# EAGLE library part 5VLX220TFF1738 (library xilinx_spartan3_virtex4_and_5)
Xilinx FPGA
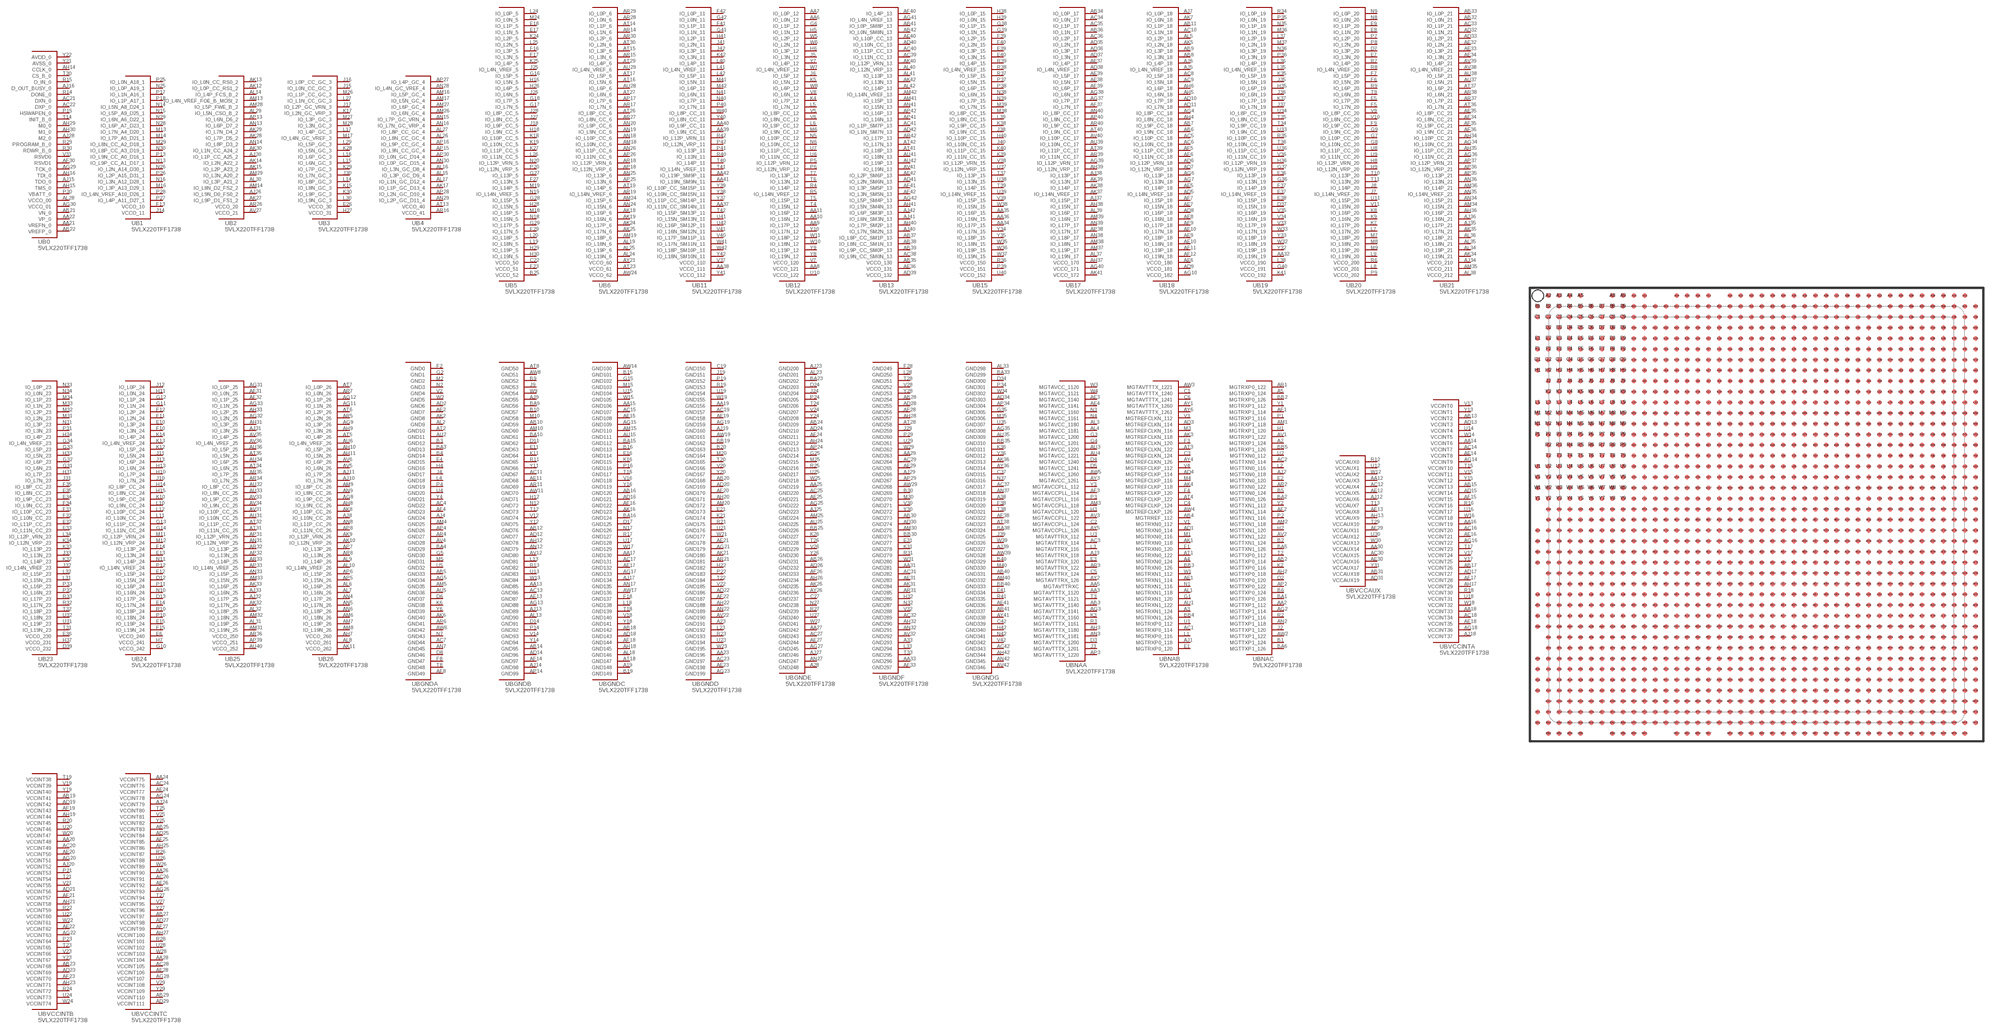
[diagram p109: symbol with the pads of FF1738; footprint FF1738]

Designator prefix U; gates B0=5VLX220TFF1738_0 B1=5VLX220TFF1738_1 B2=5VLX220TFF1738_2 B3=5VLX220TFF1738_3 B4=5VLX220TFF1738_4 B5=5VLX220TFF1738_5 B6=5VLX220TFF1738_6 B11=5VLX220TFF1738_11 B12=5VLX220TFF1738_12 B13=5VLX220TFF1738_13 B15=5VLX220TFF1738_15 B17=5VLX220TFF1738_17 B18=5VLX220TFF1738_18 B19=5VLX220TFF1738_19 B20=5VLX220TFF1738_20 B21=5VLX220TFF1738_21 B23=5VLX220TFF1738_23 B24=5VLX220TFF1738_24 B25=5VLX220TFF1738_25 B26=5VLX220TFF1738_26 BGNDA=5VLX220TFF1738_GNDA BGNDB=5VLX220TFF1738_GNDB BGNDC=5VLX220TFF1738_GNDC BGNDD=5VLX220TFF1738_GNDD BGNDE=5VLX220TFF1738_GNDE BGNDF=5VLX220TFF1738_GNDF BGNDG=5VLX220TFF1738_GNDG BNAA=5VLX220TFF1738_NAA BNAB=5VLX220TFF1738_NAB BNAC=5VLX220TFF1738_NAC BVCCAUX=5VLX220TFF1738_VCCAUX BVCCINTA=5VLX220TFF1738_VCCINTA BVCCINTB=5VLX220TFF1738_VCCINTB BVCCINTC=5VLX220TFF1738_VCCINTC

## 5VLX220TFF1738  [FF1738]
A2  BNAC:MGTRXP1_124
A3  BNAB:MGTRXN1_124
A4  BNAB:MGTRXN0_124
A5  BNAC:MGTRXP0_124
A19  BGNDC:GND148  pas
A23  BGNDD:GND191  pas
A28  BGNDE:GND248  pas
A33  BGNDF:GND293  pas
A38  BGNDG:GND319  pas
AA2  BNAC:MGTTXP1_112
AA3  BNAA:MGTAVTTTX_1120
AA5  BNAA:MGTAVTTRXC
AA6  B12:IO_L0N_12
AA7  B12:IO_L0P_12
AA8  B12:VCCO_121  pas
AA9  B12:IO_L17P_12
AA10  B12:IO_L16N_12
AA11  B12:IO_L16P_12
AA12  BVCCAUX:VCCAUX3  pas
AA13  BGNDB:GND85  pas
AA14  BVCCINTA:VCCINT6  pas
AA15  BGNDC:GND106  pas
AA16  BVCCINTA:VCCINT19  pas
AA17  BGNDC:GND130  pas
AA18  BVCCINTA:VCCINT33  pas
AA19  BGNDD:GND156  pas
AA20  BVCCINTB:VCCINT48  pas
AA21  B0:VREFN_0
AA22  B0:VP_0
AA23  BGNDD:GND196  pas
AA24  BVCCINTC:VCCINT75  pas
AA25  BGNDE:GND219  pas
AA26  BVCCINTC:VCCINT90  pas
AA27  BGNDE:GND242  pas
AA28  BVCCINTC:VCCINT104  pas
AA29  BGNDF:GND263  pas
AA30  BVCCAUX:VCCAUX14  pas
AA31  BGNDF:GND281  pas
AA32  B19:IO_L19N_19
AA33  BGNDF:GND296  pas
AA34  B15:IO_L17P_15
AA35  B15:IO_L16P_15
AA36  B15:IO_L16N_15
AA37  B11:IO_L11N_CC_SM14N_11
AA38  B11:VCCO_111  pas
AA39  B11:IO_L9N_CC_11
AA40  B11:IO_L9P_CC_11
AA41  B11:IO_L19N_SM9N_11
AA42  B11:IO_L19P_SM9P_11
AB2  BNAC:MGTTXP0_114
AB3  BNAA:MGTAVTTTX_1140
AB4  BNAB:MGTRREF_112
AB5  BGNDA:GND33  pas
AB6  B18:IO_L9N_CC_18
AB7  B18:IO_L9P_CC_18
AB8  B18:IO_L3N_18
AB9  B18:IO_L3P_18
AB10  BGNDB:GND59  pas
AB11  B18:IO_L1P_18
AB12  BGNDB:GND76  pas
AB13  BVCCINTA:VCCINT2  pas
AB14  BGNDB:GND95  pas
AB15  BVCCINTA:VCCINT13  pas
AB16  BGNDC:GND120  pas
AB17  BVCCINTA:VCCINT26  pas
AB18  BGNDC:GND142  pas
AB19  BVCCINTB:VCCINT41  pas
AB20  BGNDD:GND168  pas
AB21  B0:VN_0
AB22  B0:VREFP_0
AB23  BVCCINTB:VCCINT68  pas
AB24  BGNDE:GND209  pas
AB25  BVCCINTC:VCCINT83  pas
AB26  BGNDE:GND231  pas
AB27  BVCCINTC:VCCINT97  pas
AB28  BGNDF:GND254  pas
AB29  BVCCINTC:VCCINT110  pas
AB30  BGNDF:GND273  pas
AB31  BVCCAUX:VCCAUX18  pas
AB32  B21:IO_L0N_21
AB33  B21:IO_L0P_21
AB34  B17:IO_L0P_17
AB35  B13:VCCO_130  pas
AB36  B17:IO_L1N_17
AB37  B13:IO_L8P_CC_SM1P_13
AB38  B13:IO_L8N_CC_SM1N_13
AB39  B13:IO_L9P_CC_SM0P_13
AB40  BGNDG:GND331  pas
AB41  B13:IO_L0P_SM8P_13
AB42  B13:IO_L0N_SM8N_13
AC1  BNAB:MGTRXP0_114
AC2  BNAC:MGTTXN0_114
AC3  BNAA:MGTAVTTRX_114
AC4  BGNDA:GND22  pas
AC5  B18:IO_L10P_CC_18
AC6  B18:IO_L10N_CC_18
AC7  BGNDA:GND44  pas
AC8  B18:IO_L5P_18
AC9  B18:IO_L5N_18
AC10  B18:IO_L1N_18
AC11  BGNDB:GND67  pas
AC12  BVCCAUX:VCCAUX4  pas
AC13  BGNDB:GND86  pas
AC14  BVCCINTA:VCCINT7  pas
AC15  BGNDC:GND107  pas
AC16  BVCCINTA:VCCINT20  pas
AC17  BGNDC:GND131  pas
AC18  BVCCINTA:VCCINT34  pas
AC19  BGNDD:GND157  pas
AC20  BVCCINTB:VCCINT49  pas
AC21  B0:DXN_0
AC22  B0:DXP_0
AC23  BGNDD:GND197  pas
AC24  BVCCINTC:VCCINT76  pas
AC25  BGNDE:GND220  pas
AC26  BVCCINTC:VCCINT91  pas
AC27  BGNDE:GND243  pas
AC28  BVCCINTC:VCCINT105  pas
AC29  BGNDF:GND264  pas
AC30  BVCCAUX:VCCAUX15  pas
AC31  BGNDF:GND282  pas
AC32  BGNDF:GND289  pas
AC33  B21:IO_L1P_21
AC34  B17:IO_L0N_17
AC35  B17:IO_L1P_17
AC36  B17:IO_L2P_17
AC37  BGNDG:GND317  pas
AC38  B13:IO_L9N_CC_SM0N_13
AC39  B13:IO_L11N_CC_13
AC40  B13:IO_L11P_CC_13
AC41  B13:IO_L1P_SM7P_13
AC42  BGNDG:GND343  pas
AD1  BNAB:MGTRXN0_114
AD2  BGNDA:GND6  pas
AD3  BNAB:MGTREFCLKN_114
AD4  BNAB:MGTREFCLKP_114
AD5  B18:IO_L14N_VREF_18
AD6  B18:IO_L12P_VRN_18
AD7  B18:IO_L12N_VRP_18
AD8  B18:IO_L16P_18
AD9  B18:VCCO_181  pas
AD10  B18:IO_L7P_18
AD11  B18:IO_L7N_18
AD12  BGNDB:GND77  pas
AD13  BVCCINTA:VCCINT3  pas
AD14  BGNDB:GND96  pas
AD15  BVCCINTA:VCCINT14  pas
AD16  BGNDC:GND121  pas
AD17  BVCCINTA:VCCINT27  pas
AD18  BGNDC:GND143  pas
AD19  BVCCINTB:VCCINT42  pas
AD20  BGNDD:GND169  pas
AD21  BVCCINTB:VCCINT56  pas
AD22  BGNDD:GND186  pas
AD23  BVCCINTB:VCCINT69  pas
AD24  BGNDE:GND210  pas
AD25  BVCCINTC:VCCINT84  pas
AD26  BGNDE:GND232  pas
AD27  BVCCINTC:VCCINT98  pas
AD28  BGNDF:GND255  pas
AD29  BVCCINTC:VCCINT111  pas
AD30  BGNDF:GND274  pas
AD31  BVCCAUX:VCCAUX19  pas
AD32  B21:IO_L1N_21
AD33  B21:IO_L2P_21
AD34  BGNDG:GND303  pas
AD35  B17:IO_L2N_17
AD36  B17:IO_L3P_17
AD37  B17:IO_L3N_17
AD38  B17:IO_L4N_VREF_17
AD39  B13:VCCO_132  pas
AD40  B13:IO_L10N_CC_13
AD41  B13:IO_L2N_SM6N_13
AD42  B13:IO_L1N_SM7N_13
AE1  BNAB:MGTRXN1_114
AE2  BGNDA:GND7  pas
AE3  BNAA:MGTAVCC_1140
AE4  BNAA:MGTAVCC_1141
AE5  B18:IO_L14P_18
AE6  B18:VCCO_180  pas
AE7  B18:IO_L15N_18
AE8  B18:IO_L16N_18
AE9  B18:IO_L18P_18
AE10  B18:IO_L18N_18
AE11  BGNDB:GND68  pas
AE12  BVCCAUX:VCCAUX5  pas
AE13  BGNDB:GND87  pas
AE14  BVCCINTA:VCCINT8  pas
AE15  BGNDC:GND108  pas
AE16  BVCCINTA:VCCINT21  pas
AE17  BGNDC:GND132  pas
AE18  BVCCINTA:VCCINT35  pas
AE19  BGNDD:GND158  pas
AE20  BVCCINTB:VCCINT50  pas
AE21  BGNDD:GND178  pas
AE22  BVCCINTB:VCCINT62  pas
AE23  BGNDD:GND198  pas
AE24  BVCCINTC:VCCINT77  pas
AE25  BGNDE:GND221  pas
AE26  BVCCINTC:VCCINT92  pas
AE27  BGNDE:GND244  pas
AE28  BVCCINTC:VCCINT106  pas
AE29  BGNDF:GND265  pas
AE30  BVCCAUX:VCCAUX16  pas
AE31  BGNDF:GND283  pas
AE32  B21:IO_L2N_21
AE33  B21:IO_L3P_21
AE34  B21:IO_L3N_21
AE35  B21:IO_L8P_CC_21
AE36  B13:VCCO_131  pas
AE37  B17:IO_L4P_17
AE38  B17:IO_L5N_17
AE39  B17:IO_L5P_17
AE40  B13:IO_L10P_CC_13
AE41  BGNDG:GND336  pas
AE42  B13:IO_L2P_SM6P_13
AF1  BNAC:MGTRXP1_114
AF2  BNAC:MGTTXN1_114
AF3  BNAA:MGTAVCCPLL_114
AF4  BGNDA:GND23  pas
AF5  B18:IO_L11P_CC_18
AF6  B18:IO_L11N_CC_18
AF7  B18:IO_L15P_18
AF8  BGNDA:GND49  pas
AF9  B18:IO_L17P_18
AF10  B18:IO_L17N_18
AF11  B18:IO_L19P_18
AF12  B18:IO_L19N_18
AF13  BVCCAUX:VCCAUX8  pas
AF14  BGNDB:GND97  pas
AF15  BVCCINTA:VCCINT15  pas
AF16  BGNDC:GND122  pas
AF17  BVCCINTA:VCCINT28  pas
AF18  BGNDC:GND144  pas
AF19  BVCCINTB:VCCINT43  pas
AF20  BGNDD:GND170  pas
AF21  BVCCINTB:VCCINT57  pas
AF22  BGNDD:GND187  pas
AF23  BVCCINTB:VCCINT70  pas
AF24  BGNDE:GND211  pas
AF25  BVCCINTC:VCCINT85  pas
AF26  BGNDE:GND233  pas
AF27  BVCCINTC:VCCINT99  pas
AF28  BGNDF:GND256  pas
AF29  BVCCAUX:VCCAUX11  pas
AF30  B0:RSVD1
AF31  B25:IO_L0N_25
AF32  B25:IO_L1P_25
AF33  BGNDF:GND297  pas
AF34  B21:IO_L8N_CC_21
AF35  B21:IO_L9P_CC_21
AF36  B21:IO_L9N_CC_21
AF37  B17:IO_L7N_17
AF38  BGNDG:GND322  pas
AF39  B17:IO_L6P_17
AF40  B13:IO_L4P_13
AF41  B13:IO_L3P_SM5P_13
AF42  B13:IO_L3N_SM5N_13
AG2  BNAC:MGTTXP1_114
AG3  BNAA:MGTAVTTTX_1141
AG4  B18:IO_L8P_CC_18
AG5  BGNDA:GND34  pas
AG6  B18:IO_L13P_18
AG7  B18:IO_L13N_18
AG8  B26:IO_L9P_CC_26
AG9  B26:IO_L3P_26
AG10  B18:VCCO_182  pas
AG11  B26:IO_L1N_26
AG12  B26:IO_L1P_26
AG13  BGNDB:GND88  pas
AG14  BVCCINTA:VCCINT9  pas
AG15  BGNDC:GND109  pas
AG16  BVCCINTA:VCCINT22  pas
AG17  BGNDC:GND133  pas
AG18  BVCCINTA:VCCINT36  pas
AG19  BGNDD:GND159  pas
AG20  BVCCINTB:VCCINT51  pas
AG21  BGNDD:GND179  pas
AG22  BVCCINTB:VCCINT63  pas
AG23  BGNDD:GND199  pas
AG24  BVCCINTC:VCCINT78  pas
AG25  BGNDE:GND222  pas
AG26  BVCCINTC:VCCINT93  pas
AG27  BGNDE:GND245  pas
AG28  BVCCINTC:VCCINT107  pas
AG29  B0:TCK_0
AG30  B0:VCCO_01  pas
AG31  B25:IO_L0P_25
AG32  B25:IO_L2N_25
AG33  B25:IO_L1N_25
AG34  B21:IO_L10N_CC_21
AG35  BGNDG:GND308  pas
AG36  B21:IO_L11N_CC_21
AG37  B17:IO_L7P_17
AG38  B17:IO_L6N_17
AG39  B17:IO_L12P_VRN_17
AG40  B17:VCCO_171  pas
AG41  B13:IO_L4N_VREF_13
AG42  B13:IO_L5P_SM4P_13
AH2  BNAC:MGTTXP0_118
AH3  BNAA:MGTAVTTTX_1180
AH4  B18:IO_L8N_CC_18
AH5  B18:IO_L6N_18
AH6  B18:IO_L6P_18
AH7  B26:VCCO_260  pas
AH8  B26:IO_L9N_CC_26
AH9  B26:IO_L3N_26
AH10  B26:IO_L5P_26
AH11  B26:IO_L5N_26
AH12  BGNDB:GND78  pas
AH13  BVCCAUX:VCCAUX9  pas
AH14  B0:CCLK_0
AH15  B0:TMS_0
AH16  B0:TDI_0
AH17  BVCCINTA:VCCINT29  pas
AH18  BGNDC:GND145  pas
AH19  BVCCINTB:VCCINT44  pas
AH20  BGNDD:GND171  pas
AH21  BVCCINTB:VCCINT58  pas
AH22  BGNDD:GND188  pas
AH23  BVCCINTB:VCCINT71  pas
AH24  BGNDE:GND212  pas
AH25  BVCCINTC:VCCINT86  pas
AH26  BGNDE:GND234  pas
AH27  BVCCINTC:VCCINT100  pas
AH28  BGNDF:GND257  pas
AH29  B0:M0_0
AH30  B0:M1_0
AH31  B25:IO_L3P_25
AH32  BGNDF:GND290  pas
AH33  B25:IO_L2P_25
AH34  B21:IO_L10P_CC_21
AH35  B21:IO_L11P_CC_21
AH36  B21:IO_L16P_21
AH37  B17:VCCO_170  pas
AH38  B17:IO_L15N_17
AH39  B17:IO_L12N_VRP_17
AH40  B13:IO_L7P_SM2P_13
AH41  B13:IO_L5N_SM4N_13
AH42  BGNDG:GND344  pas
AJ1  BNAB:MGTRXP0_118
AJ2  BNAC:MGTTXN0_118
AJ3  BNAA:MGTAVTTRX_118
AJ4  BGNDA:GND24  pas
AJ5  B18:IO_L4N_VREF_18
AJ6  B18:IO_L4P_18
AJ7  B18:IO_L0P_18
AJ8  B26:IO_L10N_CC_26
AJ9  BGNDB:GND55  pas
AJ10  B26:IO_L7N_26
AJ11  B26:IO_L7P_26
AJ12  BVCCAUX:VCCAUX6  pas
AJ13  BGNDB:GND89  pas
AJ14  BGNDB:GND98  pas
AJ15  B0:TDO_0
AJ16  B0:D_OUT_BUSY_0
AJ17  BGNDC:GND134  pas
AJ18  BVCCINTA:VCCINT37  pas
AJ19  BGNDD:GND160  pas
AJ20  BVCCINTB:VCCINT52  pas
AJ23  BGNDE:GND200  pas
AJ24  BVCCINTC:VCCINT79  pas
AJ25  BGNDE:GND223  pas
AJ26  B2:IO_L9N_D0_FS0_2
AJ27  BGNDE:GND246  pas
AJ28  B0:M2_0
AJ29  BGNDF:GND266  pas
AJ30  B2:IO_L1P_CC_A25_2
AJ31  B25:IO_L3N_25
AJ32  B25:IO_L17P_25
AJ33  B25:IO_L16N_25
AJ34  B21:VCCO_210  pas
AJ35  B21:IO_L17P_21
AJ36  B21:IO_L16N_21
AJ37  B17:IO_L15P_17
AJ38  B17:IO_L13P_17
AJ39  BGNDG:GND327  pas
AJ40  B13:IO_L7N_SM2N_13
AJ41  B13:IO_L6N_SM3N_13
AJ42  B13:IO_L6P_SM3P_13
AK1  BNAB:MGTRXN0_118
AK2  BGNDA:GND8  pas
AK3  BNAB:MGTREFCLKN_118
AK4  BNAB:MGTREFCLKP_118
AK5  B18:IO_L2N_18
AK6  BGNDA:GND40  pas
AK7  B18:IO_L0N_18
AK8  B26:IO_L10P_CC_26
AK9  B26:IO_L12P_VRN_26
AK10  B26:IO_L12N_VRP_26
AK11  B26:VCCO_262  pas
AK12  B2:IO_L0P_CC_RS1_2
AK13  B2:IO_L0N_CC_RS0_2
AK14  B2:IO_L2N_A22_2
AK15  B2:IO_L2P_A23_2
AK16  BGNDC:GND123  pas
AK17  B4:IO_L1P_GC_D13_4
AK18  B6:IO_L16P_6
AK19  B6:IO_L16N_6
AK21  BGNDD:GND180  pas
AK24  B6:IO_L17P_6
AK25  B6:IO_L17N_6
AK26  BGNDE:GND235  pas
AK27  B2:IO_L9P_D1_FS1_2
AK28  B2:IO_L7P_D5_2
AK29  B2:IO_L7N_D4_2
AK30  B2:IO_L1N_CC_A24_2
AK31  BGNDF:GND284  pas
AK32  B25:IO_L17N_25
AK33  B25:IO_L16P_25
AK34  B21:IO_L19N_21
AK35  B21:IO_L17N_21
AK36  BGNDG:GND313  pas
AK37  B17:IO_L14N_VREF_17
AK38  B17:IO_L14P_17
AK39  B17:IO_L13N_17
AK40  B13:IO_L12P_VRN_13
AK41  B17:VCCO_172  pas
AK42  B13:IO_L13N_13
AL1  BNAB:MGTRXN1_118
AL2  BGNDA:GND9  pas
AL3  BNAA:MGTAVCC_1180
AL4  BNAA:MGTAVCC_1181
AL5  B18:IO_L2P_18
AL6  B26:IO_L16P_26
AL7  B26:IO_L16N_26
AL8  B26:VCCO_261  pas
AL9  B26:IO_L14P_26
AL10  B26:IO_L14N_VREF_26
AL13  BGNDB:GND90  pas
AL14  B2:IO_L4P_FCS_B_2
AL15  B4:IO_L3P_GC_D9_4
AL16  B4:IO_L3N_GC_D8_4
AL17  B4:IO_L1N_GC_D12_4
AL18  BGNDC:GND146  pas
AL19  B6:IO_L18N_6
AL23  BGNDE:GND201  pas
AL24  B6:IO_L19N_6
AL25  B6:IO_L19P_6
AL26  B4:IO_L8N_CC_GC_4
AL27  B4:IO_L8P_CC_GC_4
AL28  B0:VCCO_00  pas
AL29  B2:IO_L5N_CSO_B_2
AL30  B2:IO_L3P_A21_2
AL31  B25:IO_L19P_25
AL32  B25:IO_L18P_25
AL33  BGNDG:GND298  pas
AL34  B21:IO_L19P_21
AL35  B21:IO_L18N_21
AL36  B21:IO_L18P_21
AL37  B17:IO_L19N_17
AL38  B21:VCCO_212  pas
AL39  B17:IO_L16P_17
AL40  B13:IO_L12N_VRP_13
AL41  B13:IO_L13P_13
AL42  B13:IO_L14P_13
AM1  BNAC:MGTRXP1_118
AM2  BNAC:MGTTXN1_118
AM3  BNAA:MGTAVCCPLL_118
AM4  BGNDA:GND25  pas
AM5  BGNDA:GND35  pas
AM6  B26:IO_L18N_26
AM7  B26:IO_L19P_26
AM8  B26:IO_L19N_26
AM9  B26:IO_L8P_CC_26
AM10  BGNDB:GND60  pas
AM13  B2:IO_L4N_VREF_FOE_B_MOSI_2
AM14  B2:IO_L8N_D2_FS2_2
AM15  BGNDC:GND110  pas
AM16  B4:IO_L5P_GC_4
AM17  B4:IO_L5N_GC_4
AM18  B6:IO_L10N_CC_6
AM19  B6:IO_L18P_6
AM20  BGNDD:GND172  pas
AM24  B6:IO_L15P_6
AM25  BGNDE:GND224  pas
AM26  B4:IO_L6N_GC_4
AM27  B4:IO_L6P_GC_4
AM28  B2:IO_L5P_FWE_B_2
AM29  B2:IO_L3N_A20_2
AM30  BGNDF:GND275  pas
AM31  B25:IO_L19N_25
AM32  B25:IO_L18N_25
AM33  B25:IO_L15N_25
AM34  B21:IO_L15N_21
AM35  B21:VCCO_211  pas
AM36  B21:IO_L14P_21
AM37  B17:IO_L19P_17
AM38  B17:IO_L18N_17
AM39  B17:IO_L16N_17
AM40  BGNDG:GND332  pas
AM41  B13:IO_L15P_13
AM42  B13:IO_L14N_VREF_13
AN2  BNAC:MGTTXP1_118
AN3  BNAA:MGTAVTTTX_1181
AN4  B26:IO_L17P_26
AN5  B26:IO_L17N_26
AN6  B26:IO_L18P_26
AN7  BGNDA:GND45  pas
AN8  B26:IO_L11P_CC_26
AN9  B26:IO_L8N_CC_26
AN12  BGNDB:GND79  pas
AN13  B2:IO_L6P_D7_2
AN14  B2:IO_L8P_D3_2
AN15  B4:IO_L7P_GC_VRN_4
AN16  B4:IO_L7N_GC_VRP_4
AN17  BGNDC:GND135  pas
AN18  B6:IO_L10P_CC_6
AN19  B6:IO_L9N_CC_6
AN20  B6:IO_L9P_CC_6
AN22  BGNDD:GND189  pas
AN24  B6:IO_L15N_6
AN25  B6:IO_L13P_6
AN26  B6:IO_L11P_CC_6
AN27  BGNDE:GND247  pas
AN28  B4:IO_L4N_GC_VREF_4
AN29  B4:IO_L2P_GC_D11_4
AN30  B4:IO_L0P_GC_D15_4
AN31  B25:IO_L12N_VRP_25
AN32  BGNDF:GND291  pas
AN33  B25:IO_L15P_25
AN34  B21:IO_L15P_21
AN35  B21:IO_L14N_VREF_21
AN36  B21:IO_L13N_21
AN37  BGNDG:GND318  pas
AN38  B17:IO_L18P_17
AN39  B17:IO_L17P_17
AN40  B17:IO_L8P_CC_17
AN41  B13:IO_L15N_13
AN42  BGNDG:GND345  pas
AP2  BNAC:MGTTXP0_122
AP3  BNAA:MGTAVTTTX_1220
AP4  BGNDA:GND26  pas
AP5  B26:IO_L15N_26
AP6  B26:IO_L15P_26
AP7  B26:IO_L13P_26
AP8  B26:IO_L11N_CC_26
AP13  B2:IO_L6N_D6_2
AP14  BGNDB:GND99  pas
AP15  B4:IO_L9N_CC_GC_4
AP16  B4:IO_L9P_CC_GC_4
AP17  B6:IO_L7P_6
AP18  B6:IO_L12N_VRP_6
AP24  BGNDE:GND213  pas
AP25  B6:IO_L13N_6
AP26  B6:IO_L11N_CC_6
AP27  B4:IO_L4P_GC_4
AP28  B4:IO_L2N_GC_D10_4
AP29  BGNDF:GND267  pas
AP30  B4:IO_L0N_GC_D14_4
AP31  B25:IO_L12P_VRN_25
AP32  B25:IO_L13N_25
AP33  B25:IO_L14N_VREF_25
AP34  BGNDG:GND304  pas
AP35  B21:IO_L13P_21
AP36  B21:IO_L12N_VRP_21
AP37  B21:IO_L12P_VRN_21
AP38  B17:IO_L17N_17
AP39  B25:VCCO_251  pas
AP40  B17:IO_L8N_CC_17
AP41  B13:IO_L16N_13
AP42  B13:IO_L16P_13
AR1  BNAC:MGTRXP0_122
AR2  BNAC:MGTTXN0_122
AR3  BNAA:MGTAVTTRX_122
AR4  BGNDA:GND27  pas
AR5  B26:IO_L2N_26
AR6  BGNDA:GND41  pas
AR7  B26:IO_L0N_26
AR8  B26:IO_L13N_26
AR11  BGNDB:GND69  pas
AR14  B6:IO_L1N_6
AR15  B6:IO_L3N_6
AR16  B4:VCCO_41  pas
AR17  B6:IO_L7N_6
AR18  B6:IO_L12P_VRN_6
AR19  B6:IO_L14N_VREF_6
AR21  BGNDD:GND181  pas
AR26  B2:VCCO_20  pas
AR27  B6:IO_L8N_CC_6
AR28  B6:IO_L0N_6
AR29  B6:IO_L0P_6
AR30  B6:IO_L2P_6
AR31  BGNDF:GND285  pas
AR32  B25:IO_L13P_25
AR33  B25:IO_L14P_25
AR34  B25:IO_L7N_25
AR35  B25:IO_L7P_25
AR36  B25:VCCO_250  pas
AR37  B21:IO_L7P_21
AR38  B21:IO_L6N_21
AR39  B17:IO_L11N_CC_17
AR40  B17:IO_L9P_CC_17
AR41  BGNDG:GND337  pas
AR42  B13:IO_L17P_13
AT1  BNAB:MGTRXN0_122
AT2  BGNDA:GND10  pas
AT3  BNAB:MGTREFCLKN_122
AT4  BNAB:MGTREFCLKP_122
AT5  B26:IO_L4P_26
AT6  B26:IO_L2P_26
AT7  B26:IO_L0P_26
AT8  BGNDB:GND50  pas
AT13  B4:VCCO_40  pas
AT14  B6:IO_L1P_6
AT15  B6:IO_L3P_6
AT16  B6:IO_L5N_6
AT17  B6:IO_L5P_6
AT18  BGNDC:GND147  pas
AT19  B6:IO_L14P_6
AT23  B6:VCCO_61  pas
AT26  B6:IO_L8P_CC_6
AT27  B6:IO_L6N_6
AT28  BGNDF:GND258  pas
AT29  B6:IO_L4P_6
AT30  B6:IO_L2N_6
AT31  B25:IO_L11N_CC_25
AT32  B25:IO_L11P_CC_25
AT34  B25:IO_L6N_25
AT35  B25:IO_L5N_25
AT36  B21:IO_L7N_21
AT37  B21:IO_L6P_21
AT38  BGNDG:GND323  pas
AT39  B17:IO_L11P_CC_17
AT40  B17:IO_L9N_CC_17
AT41  B13:IO_L18P_13
AT42  B13:IO_L17N_13
AU1  BNAB:MGTRXN1_122
AU2  BGNDA:GND11  pas
AU3  BNAA:MGTAVCC_1220
AU4  BNAA:MGTAVCC_1221
AU5  BGNDA:GND36  pas
AU6  B26:IO_L4N_VREF_26
AU15  BGNDC:GND111  pas
AU25  BGNDE:GND225  pas
AU28  B6:IO_L6P_6
AU29  B6:IO_L4N_VREF_6
AU31  B25:IO_L10N_CC_25
AU32  B25:IO_L8P_CC_25
AU33  B25:IO_L8N_CC_25
AU34  B25:IO_L6P_25
AU35  BGNDG:GND309  pas
AU36  B25:IO_L5P_25
AU37  B21:IO_L5N_21
AU38  B21:IO_L5P_21
AU39  B17:IO_L10N_CC_17
AU40  B25:VCCO_252  pas
AU41  B13:IO_L18N_13
AU42  B13:IO_L19P_13
AV1  BNAC:MGTRXP1_122
AV2  BNAC:MGTTXN1_122
AV3  BNAA:MGTAVCCPLL_122
AV4  BGNDA:GND28  pas
AV5  B26:IO_L6N_26
AV6  B26:IO_L6P_26
AV12  BGNDB:GND80  pas
AV22  BGNDD:GND190  pas
AV27  B2:VCCO_21  pas
AV31  B25:IO_L10P_CC_25
AV32  BGNDF:GND292  pas
AV33  B25:IO_L9P_CC_25
AV34  B25:IO_L9N_CC_25
AV35  B25:IO_L4P_25
AV36  B25:IO_L4N_VREF_25
AV38  B21:IO_L4N_VREF_21
AV39  B21:IO_L4P_21
AV40  B17:IO_L10P_CC_17
AV41  B13:IO_L19N_13
AV42  BGNDG:GND346  pas
AW2  BNAC:MGTTXP1_122
AW3  BNAB:MGTAVTTTX_1221
AW4  BNAB:MGTREFCLKP_126
AW5  BNAA:MGTAVCC_1260
AW6  BGNDA:GND42  pas
AW8  BGNDB:GND51  pas
AW11  BGNDB:GND70  pas
AW14  BGNDC:GND100  pas
AW17  BGNDC:GND136  pas
AW19  BGNDD:GND161  pas
AW24  B6:VCCO_62  pas
AW29  BGNDF:GND268  pas
AW39  BGNDG:GND328  pas
AY1  BNAB:MGTAVTTTX_1260
AY2  BNAA:MGTAVTTRX_126
AY3  BNAA:MGTAVCC_1261
AY4  BNAB:MGTREFCLKN_126
AY5  BNAA:MGTAVCCPLL_126
AY6  BNAB:MGTAVTTTX_1261
AY21  B6:VCCO_60  pas
AY26  BGNDE:GND236  pas
AY36  BGNDG:GND314  pas
AY41  BGNDG:GND338  pas
B1  BNAC:MGTTXP1_124
B2  BNAC:MGTTXN1_124
B3  BGNDA:GND12  pas
B4  BGNDA:GND14  pas
B5  BNAC:MGTTXN0_124
B6  BNAC:MGTTXP0_124
B9  BGNDB:GND52  pas
B10  BGNDB:GND57  pas
B15  BGNDC:GND101  pas
B16  BGNDC:GND113  pas
B19  BGNDC:GND149  pas
B20  BGNDD:GND163  pas
B25  B5:VCCO_52  pas
B30  BGNDF:GND269  pas
B40  BGNDG:GND329  pas
BA1  BNAC:MGTTXP0_126
BA2  BNAC:MGTTXN0_126
BA3  BGNDA:GND13  pas
BA4  BGNDA:GND29  pas
BA5  BNAC:MGTTXN1_126
BA6  BNAC:MGTTXP1_126
BA9  BGNDB:GND56  pas
BA10  BGNDB:GND61  pas
BA15  BGNDC:GND112  pas
BA16  BGNDC:GND124  pas
BA23  BGNDE:GND202  pas
BA33  BGNDG:GND299  pas
BA38  BGNDG:GND324  pas
BB2  BNAC:MGTRXP0_126
BB3  BNAB:MGTRXN0_126
BB4  BNAB:MGTRXN1_126
BB5  BNAC:MGTRXP1_126
BB19  BGNDD:GND162  pas
BB25  BGNDE:GND226  pas
BB30  BGNDF:GND276  pas
BB35  BGNDG:GND310  pas
BB40  BGNDG:GND333  pas
C1  BNAB:MGTAVTTTX_1240
C2  BNAA:MGTAVCCPLL_124
C3  BNAB:MGTREFCLKN_124
C4  BNAB:MGTREFCLKP_124
C5  BNAA:MGTAVTTRX_124
C6  BNAB:MGTAVTTTX_1241
C19  BGNDD:GND150  pas
C22  B5:VCCO_50  pas
C27  BGNDE:GND237  pas
C37  BGNDG:GND315  pas
C42  BGNDG:GND339  pas
D2  BNAC:MGTTXP0_120
D3  BNAA:MGTAVTTTX_1200
D4  BNAA:MGTAVCC_1240
D5  BNAA:MGTAVCC_1241
D6  BGNDA:GND37  pas
D7  B20:IO_L3P_20
D8  BGNDA:GND46  pas
D11  BGNDB:GND62  pas
D12  B24:IO_L15N_24
D13  B24:IO_L17P_24
D14  BGNDB:GND91  pas
D17  BGNDC:GND125  pas
D24  BGNDE:GND203  pas
D34  BGNDG:GND300  pas
D37  B19:IO_L15N_19
D39  B23:VCCO_232  pas
E1  BNAB:MGTRXP0_120
E2  BNAC:MGTTXN0_120
E3  BNAA:MGTAVTTRX_120
E4  BGNDA:GND15  pas
E5  B20:IO_L7P_20
E6  B24:VCCO_240  pas
E7  B20:IO_L3N_20
E8  B20:IO_L1N_20
E9  B20:IO_L1P_20
E10  B24:IO_L3P_24
E11  BGNDB:GND63  pas
E12  B24:IO_L15P_24
E13  B24:IO_L13N_24
E14  B24:IO_L17N_24
E15  B24:IO_L19P_24
E16  BGNDC:GND114  pas
E17  B5:IO_L1N_5
E18  B5:IO_L1P_5
E21  BGNDD:GND173  pas
E26  B3:VCCO_30  pas
E31  BGNDF:GND277  pas
E32  B23:IO_L11P_CC_23
E33  B23:IO_L11N_CC_23
E34  B23:IO_L9P_CC_23
E35  B23:IO_L8N_CC_23
E36  B23:VCCO_230  pas
E37  B19:IO_L14N_VREF_19
E38  B19:IO_L15P_19
E39  B15:IO_L3P_15
E40  B15:IO_L3N_15
E41  BGNDG:GND334  pas
F1  BNAB:MGTRXN0_120
F2  BGNDA:GND0  pas
F3  BNAB:MGTREFCLKN_120
F4  BNAB:MGTREFCLKP_120
F5  B20:IO_L7N_20
F6  B20:IO_L5N_20
F7  B20:IO_L5P_20
F8  BGNDA:GND47  pas
F9  B20:IO_L9P_CC_20
F10  B24:IO_L3N_24
F11  B24:IO_L2N_24
F12  B24:IO_L2P_24
F13  B1:VCCO_10  pas
F14  B24:IO_L13P_24
F15  B24:IO_L19N_24
F16  B5:IO_L3P_5
F17  B5:IO_L3N_5
F18  BGNDC:GND137  pas
F23  B5:VCCO_51  pas
F27  B5:IO_L13N_5
F28  BGNDF:GND249  pas
F29  B5:IO_L17N_5
F31  B23:IO_L10P_CC_23
F32  B23:IO_L10N_CC_23
F34  B23:IO_L9N_CC_23
F35  B23:IO_L8P_CC_23
F36  B19:IO_L13P_19
F37  B19:IO_L14P_19
F38  BGNDG:GND320  pas
F39  B15:IO_L2P_15
F40  B15:IO_L2N_15
F41  B11:IO_L1P_11
F42  B11:IO_L0P_11
G1  BNAB:MGTRXN1_120
G2  BGNDA:GND1  pas
G3  BNAA:MGTAVCC_1200
G4  BNAA:MGTAVCC_1201
G5  BGNDA:GND30  pas
G6  B12:IO_L1P_12
G7  B20:IO_L10P_CC_20
G8  B20:IO_L10N_CC_20
G9  B20:IO_L9N_CC_20
G10  B24:VCCO_242  pas
G11  B24:IO_L1N_24
G12  B24:IO_L1P_24
G13  B24:IO_L11P_CC_24
G14  B24:IO_L11N_CC_24
G15  BGNDC:GND102  pas
G16  B5:IO_L5P_5
G17  B5:IO_L7N_5
G18  B5:IO_L7P_5
G25  BGNDE:GND214  pas
G27  B5:IO_L13P_5
G28  B5:IO_L15P_5
G29  B5:IO_L17P_5
G31  B23:IO_L6N_23
G32  B23:IO_L6P_23
G33  B23:IO_L5P_23
G34  B23:IO_L4N_VREF_23
G35  BGNDG:GND305  pas
G36  B19:IO_L13N_19
G37  B19:IO_L12N_VRP_19
G38  B15:IO_L1P_15
G39  B15:IO_L1N_15
G40  B19:VCCO_191  pas
G41  B11:IO_L1N_11
G42  B11:IO_L0N_11
H1  BNAC:MGTRXP1_120
H2  BNAC:MGTTXN1_120
H3  BNAA:MGTAVCCPLL_120
H4  BGNDA:GND16  pas
H5  B12:IO_L1N_12
H6  B12:IO_L3P_12
H7  B24:VCCO_241  pas
H8  B20:IO_L12P_VRN_20
H9  B20:IO_L12N_VRP_20
H10  B24:IO_L7P_24
H11  B24:IO_L0N_24
H12  BGNDB:GND71  pas
H13  B24:IO_L6N_24
H14  B24:IO_L8P_CC_24
H15  B24:IO_L8N_CC_24
H16  B5:IO_L5N_5
H18  B5:IO_L9N_CC_5
H22  BGNDD:GND182  pas
H26  B5:IO_L6P_5
H27  B3:VCCO_31  pas
H28  B5:IO_L15N_5
H29  B5:IO_L19P_5
H30  B5:IO_L19N_5
H31  B23:IO_L7P_23
H32  BGNDF:GND286  pas
H33  B23:IO_L5N_23
H34  B23:IO_L4P_23
H35  B19:IO_L6P_19
H36  B19:IO_L12P_VRN_19
H37  B23:VCCO_231  pas
H38  B15:IO_L0P_15
H39  B15:IO_L0N_15
H40  B15:IO_L10P_CC_15
H41  B11:IO_L2P_11
H42  BGNDG:GND340  pas
J2  BNAC:MGTTXP1_120
J3  BNAA:MGTAVTTTX_1201
J4  BGNDA:GND17  pas
J5  B12:IO_L3N_12
J6  B12:IO_L5P_12
J7  B20:IO_L14N_VREF_20
J8  B20:IO_L14P_20
J9  BGNDB:GND53  pas
J10  B24:IO_L7N_24
J11  B24:IO_L5N_24
J12  B24:IO_L0P_24
J13  B24:IO_L6P_24
J14  B1:VCCO_11  pas
J15  B3:IO_L0N_CC_GC_3
J16  B3:IO_L0P_CC_GC_3
J17  B3:IO_L2P_GC_VRN_3
J18  B5:IO_L9P_CC_5
J19  BGNDD:GND151  pas
J24  BGNDE:GND204  pas
J25  B5:IO_L4N_VREF_5
J26  B5:IO_L6N_5
J27  B5:IO_L8N_CC_5
J28  B5:IO_L8P_CC_5
J29  BGNDF:GND259  pas
J30  B3:IO_L7N_GC_3
J31  B23:IO_L7N_23
J32  B23:IO_L14N_VREF_23
J33  B23:IO_L13N_23
J35  B19:IO_L5N_19
J36  B19:IO_L6N_19
J37  B19:IO_L7N_19
J38  B15:IO_L9N_CC_15
J39  BGNDG:GND325  pas
J40  B15:IO_L10N_CC_15
J41  B11:IO_L2N_11
J42  B11:IO_L3P_11
K2  BNAC:MGTTXP0_116
K3  BNAA:MGTAVTTTX_1160
K4  B12:IO_L7P_12
K5  B12:IO_L5N_12
K6  BGNDA:GND38  pas
K7  B20:IO_L17P_20
K8  B20:IO_L16P_20
K9  B20:IO_L16N_20
K10  B24:IO_L9P_CC_24
K11  BGNDB:GND64  pas
K12  B24:IO_L5P_24
K13  B24:IO_L4N_VREF_24
K14  B24:IO_L4P_24
K15  B3:IO_L8N_GC_3
K16  BGNDC:GND115  pas
K17  B3:IO_L2N_GC_VRP_3
K18  B5:IO_L10P_CC_5
K19  B5:IO_L10N_CC_5
K21  BGNDD:GND174  pas
K24  B5:IO_L2P_5
K25  B5:IO_L4P_5
K26  BGNDE:GND227  pas
K27  B5:IO_L11P_CC_5
K28  B3:IO_L5N_GC_3
K29  B3:IO_L7P_GC_3
K30  B3:IO_L9P_GC_3
K31  BGNDF:GND278  pas
K32  B23:IO_L14P_23
K33  B23:IO_L13P_23
K34  B23:IO_L12N_VRP_23
K35  B19:IO_L5P_19
K36  BGNDG:GND311  pas
K37  B19:IO_L7P_19
K38  B15:IO_L9P_CC_15
K39  B15:IO_L11N_CC_15
K40  B15:IO_L11P_CC_15
K41  B19:VCCO_192  pas
K42  B11:IO_L3N_11
L1  BNAB:MGTRXP0_116
L2  BNAC:MGTTXN0_116
L3  BNAA:MGTAVTTRX_116
L4  BGNDA:GND18  pas
L5  B12:IO_L7N_12
L6  B12:IO_L9P_CC_12
L7  B20:IO_L17N_20
L8  B20:VCCO_201  pas
L9  B20:IO_L19N_20
L10  B24:IO_L9N_CC_24
L11  B24:IO_L10N_CC_24
L12  B24:IO_L10P_CC_24
L13  BGNDB:GND81  pas
L14  B3:IO_L8P_GC_3
L15  B3:IO_L6N_GC_3
L16  B3:IO_L6P_GC_3
L17  B3:IO_L4P_GC_3
L18  BGNDC:GND138  pas
L19  B5:IO_L18N_5
L20  B5:IO_L18P_5
L23  BGNDD:GND192  pas
L24  B5:IO_L0P_5
L25  B5:IO_L2N_5
L26  B5:IO_L11N_CC_5
L27  B3:IO_L1N_CC_GC_3
L28  BGNDF:GND250  pas
L29  B3:IO_L5P_GC_3
L30  B3:IO_L9N_GC_3
L31  B23:IO_L15N_23
L32  B23:IO_L15P_23
L33  BGNDF:GND294  pas
L34  B23:IO_L12P_VRN_23
L35  B19:IO_L4N_VREF_19
L36  B19:IO_L4P_19
L37  B19:IO_L2P_19
L38  B19:VCCO_190  pas
L39  B15:IO_L8N_CC_15
L40  B11:IO_L4P_11
L41  B11:IO_L4N_VREF_11
L42  B11:IO_L5P_11
M1  BNAB:MGTRXN0_116
M2  BGNDA:GND2  pas
M3  BNAB:MGTREFCLKN_116
M4  BNAB:MGTREFCLKP_116
M5  BGNDA:GND31  pas
M6  B12:IO_L9N_CC_12
M7  B20:IO_L18P_20
M8  B20:IO_L18N_20
M9  B20:IO_L19P_20
M10  BGNDB:GND58  pas
M11  B24:IO_L12P_VRN_24
M12  B24:IO_L12N_VRP_24
M13  B1:IO_L7N_A4_D20_1
M14  B1:IO_L7P_A5_D21_1
M15  BGNDC:GND103  pas
M16  B1:IO_L3P_A13_D29_1
M17  B3:IO_L4N_GC_VREF_3
M18  B5:IO_L16P_5
M19  B5:IO_L14P_5
M20  BGNDD:GND164  pas
M24  B5:IO_L0N_5
M25  BGNDE:GND215  pas
M26  B3:IO_L1P_CC_GC_3
M27  B3:IO_L3P_GC_3
M28  B3:IO_L3N_GC_3
M29  B1:IO_L8N_CC_A2_D18_1
M30  BGNDF:GND270  pas
M31  B23:IO_L2N_23
M32  B23:IO_L2P_23
M33  B23:IO_L1N_23
M34  B23:IO_L1P_23
M35  BGNDG:GND306  pas
M36  B19:IO_L1N_19
M37  B19:IO_L2N_19
M38  B15:IO_L8P_CC_15
M39  B15:IO_L7N_15
M40  BGNDG:GND330  pas
M41  B11:IO_L5N_11
M42  B11:IO_L6P_11
N1  BNAB:MGTRXN1_116
N2  BGNDA:GND3  pas
N3  BNAA:MGTAVCC_1160
N4  BNAA:MGTAVCC_1161
N5  B12:IO_L10P_CC_12
N6  B12:IO_L10N_CC_12
N7  BGNDA:GND43  pas
N8  B20:IO_L0N_20
N9  B20:IO_L0P_20
N10  B24:IO_L16N_24
N11  B24:IO_L14P_24
N12  BGNDB:GND72  pas
N13  B1:IO_L9P_CC_A1_D17_1
N14  B1:IO_L5N_A8_D24_1
N15  B1:IO_L5P_A9_D25_1
N16  B1:IO_L3N_A12_D28_1
N17  BGNDC:GND126  pas
N18  B5:IO_L16N_5
N19  B5:IO_L14N_VREF_5
N20  B5:IO_L12P_VRN_5
N25  B1:IO_L0P_A19_1
N26  B1:IO_L2N_A14_D30_1
N27  BGNDE:GND238  pas
N28  B1:IO_L6P_A7_D23_1
N29  B1:IO_L6N_A6_D22_1
N30  B1:IO_L8P_CC_A3_D19_1
N31  B23:IO_L3P_23
N32  BGNDF:GND287  pas
N33  B23:IO_L0P_23
N34  B23:IO_L0N_23
N35  B19:IO_L1P_19
N36  B19:IO_L3P_19
N37  BGNDG:GND316  pas
N38  B15:IO_L6N_15
N39  B15:IO_L7P_15
N40  B11:IO_L7P_11
N41  B11:IO_L6N_11
N42  BGNDG:GND341  pas
P1  BNAC:MGTRXP1_116
P2  BNAC:MGTTXN1_116
P3  BNAA:MGTAVCCPLL_116
P4  BGNDA:GND19  pas
P5  B12:IO_L12P_VRN_12
P6  B12:IO_L12N_VRP_12
P7  B20:IO_L2P_20
P8  B20:IO_L2N_20
P9  B20:VCCO_202  pas
P10  B24:IO_L18N_24
P11  B24:IO_L16P_24
P12  B24:IO_L14N_VREF_24
P13  B1:IO_L9N_CC_A0_D16_1
P14  BGNDB:GND92  pas
P15  B0:HSWAPEN_0
P16  BGNDC:GND116  pas
P17  B1:IO_L1N_A16_1
P18  B1:IO_L1P_A17_1
P19  BGNDD:GND152  pas
P20  B5:IO_L12N_VRP_5
P21  BVCCINTB:VCCINT53  pas
P22  BGNDD:GND183  pas
P23  BVCCINTB:VCCINT64  pas
P24  BGNDE:GND205  pas
P25  B1:IO_L0N_A18_1
P26  B1:IO_L2P_A15_D31_1
P27  B1:IO_L4P_A11_D27_1
P28  B1:IO_L4N_VREF_A10_D26_1
P29  BGNDF:GND260  pas
P30  B0:VBATT_0
P31  B23:IO_L3N_23
P32  B23:IO_L16N_23
P33  B23:IO_L16P_23
P34  BGNDG:GND301  pas
P35  B19:IO_L0N_19
P36  B19:IO_L3N_19
P37  B15:IO_L5N_15
P38  B15:IO_L6P_15
P39  B15:VCCO_151  pas
P40  B11:IO_L7N_11
P41  B11:IO_L13P_11
P42  B11:IO_L12N_VRP_11
R2  BNAC:MGTTXP1_116
R3  BNAA:MGTAVTTTX_1161
R4  B12:IO_L14P_12
R5  B12:IO_L14N_VREF_12
R6  B20:VCCO_200  pas
R7  B20:IO_L4P_20
R8  B20:IO_L4N_VREF_20
R9  B20:IO_L6P_20
R10  B24:IO_L18P_24
R11  BGNDB:GND65  pas
R12  BVCCAUX:VCCAUX0  pas
R13  BGNDB:GND82  pas
R14  B0:DONE_0
R15  B0:D_IN_0
R16  BVCCINTA:VCCINT16  pas
R17  BGNDC:GND127  pas
R18  BVCCINTA:VCCINT30  pas
R19  BGNDD:GND153  pas
R20  BVCCINTB:VCCINT45  pas
R21  BGNDD:GND175  pas
R22  BVCCINTB:VCCINT59  pas
R23  BGNDD:GND193  pas
R24  BVCCINTB:VCCINT72  pas
R25  BGNDE:GND216  pas
R26  BVCCINTC:VCCINT87  pas
R27  BGNDE:GND239  pas
R28  BVCCINTC:VCCINT101  pas
R29  B0:PROGRAM_B_0
R30  B0:RDWR_B_0
R31  BGNDF:GND279  pas
R32  B23:IO_L17N_23
R33  B23:IO_L17P_23
R34  B19:IO_L0P_19
R35  B19:IO_L10P_CC_19
R36  B15:VCCO_150  pas
R37  B15:IO_L5P_15
R38  B15:IO_L4N_VREF_15
R39  B15:IO_L4P_15
R40  B11:IO_L13N_11
R41  BGNDG:GND335  pas
R42  B11:IO_L12P_VRN_11
T2  BNAC:MGTTXP0_112
T3  BNAA:MGTAVTTTX_1121
T4  B12:IO_L15N_12
T5  B12:IO_L15P_12
T6  B12:IO_L13N_12
T7  B12:IO_L13P_12
T8  BGNDA:GND48  pas
T9  B20:IO_L6N_20
T10  B20:IO_L13P_20
T11  B20:IO_L13N_20
T12  BGNDB:GND73  pas
T13  BVCCAUX:VCCAUX7  pas
T14  B0:INIT_B_0
T15  BVCCINTA:VCCINT10  pas
T16  BGNDC:GND117  pas
T17  BVCCINTA:VCCINT23  pas
T18  BGNDC:GND139  pas
T19  BVCCINTB:VCCINT38  pas
T20  BGNDD:GND165  pas
T21  BVCCINTB:VCCINT54  pas
T22  BGNDD:GND184  pas
T23  BVCCINTB:VCCINT65  pas
T24  BGNDE:GND206  pas
T25  BVCCINTC:VCCINT80  pas
T26  BGNDE:GND228  pas
T27  BVCCINTC:VCCINT94  pas
T28  BGNDF:GND251  pas
T29  BVCCAUX:VCCAUX10  pas
T30  B0:CS_B_0
T31  B23:IO_L19N_23
T32  B23:IO_L18P_23
T33  BGNDF:GND295  pas
T34  B19:IO_L9P_CC_19
T35  B19:IO_L8N_CC_19
T36  B19:IO_L10N_CC_19
T37  B15:IO_L13P_15
T38  BGNDG:GND321  pas
T39  B15:IO_L14P_15
T40  B11:IO_L14P_11
T41  B11:IO_L14N_VREF_11
T42  B11:IO_L15P_SM13P_11
U1  BNAB:MGTRXP0_112
U2  BNAC:MGTTXN0_112
U3  BNAA:MGTAVTTRX_112
U4  BGNDA:GND20  pas
U5  BGNDA:GND32  pas
U6  B12:IO_L11N_CC_12
U7  B12:IO_L11P_CC_12
U8  B20:IO_L11P_CC_20
U9  B20:IO_L11N_CC_20
U10  B12:VCCO_122  pas
U11  B20:IO_L15P_20
U12  BVCCAUX:VCCAUX1  pas
U13  BGNDB:GND83  pas
U14  BVCCINTA:VCCINT4  pas
U15  BGNDC:GND104  pas
U16  BVCCINTA:VCCINT17  pas
U17  BGNDC:GND128  pas
U18  BVCCINTA:VCCINT31  pas
U19  BGNDD:GND154  pas
U20  BVCCINTB:VCCINT46  pas
U21  BGNDD:GND176  pas
U22  BVCCINTB:VCCINT60  pas
U23  BGNDD:GND194  pas
U24  BVCCINTB:VCCINT73  pas
U25  BGNDE:GND217  pas
U26  BVCCINTC:VCCINT88  pas
U27  BGNDE:GND240  pas
U28  BVCCINTC:VCCINT102  pas
U29  BGNDF:GND261  pas
U30  BVCCAUX:VCCAUX12  pas
U31  B23:IO_L19P_23
U32  B23:IO_L18N_23
U33  B19:IO_L9N_CC_19
U34  B19:IO_L8P_CC_19
U35  BGNDG:GND307  pas
U36  B19:IO_L11P_CC_19
U37  B15:IO_L12N_VRP_15
U38  B15:IO_L13N_15
U39  B15:IO_L14N_VREF_15
U40  B15:VCCO_152  pas
U41  B11:IO_L15N_SM13N_11
U42  B11:IO_L16P_SM12P_11
V1  BNAB:MGTRXN0_112
V2  BGNDA:GND4  pas
V3  BNAB:MGTREFCLKN_112
V4  BNAB:MGTREFCLKP_112
V5  B12:IO_L8P_CC_12
V6  B12:IO_L8N_CC_12
V7  B12:VCCO_120  pas
V8  B12:IO_L6N_12
V9  B20:IO_L8P_CC_20
V10  B20:IO_L8N_CC_20
V11  B20:IO_L15N_20
V12  BGNDB:GND74  pas
V13  BVCCINTA:VCCINT0  pas
V14  BGNDB:GND93  pas
V15  BVCCINTA:VCCINT11  pas
V16  BGNDC:GND118  pas
V17  BVCCINTA:VCCINT24  pas
V18  BGNDC:GND140  pas
V19  BVCCINTB:VCCINT39  pas
V20  BGNDD:GND166  pas
V21  BVCCINTB:VCCINT55  pas
V22  BGNDD:GND185  pas
V23  BVCCINTB:VCCINT66  pas
V24  BGNDE:GND207  pas
V25  BVCCINTC:VCCINT81  pas
V26  BGNDE:GND229  pas
V27  BVCCINTC:VCCINT95  pas
V28  BGNDF:GND252  pas
V29  BVCCINTC:VCCINT108  pas
V30  BGNDF:GND271  pas
V31  B0:RSVD0
V32  BGNDF:GND288  pas
V33  B19:IO_L17P_19
V34  B19:IO_L16N_19
V35  B19:IO_L16P_19
V36  B19:IO_L11N_CC_19
V37  B11:VCCO_110  pas
V38  B15:IO_L12P_VRN_15
V39  B15:IO_L15P_15
V40  B11:IO_L17P_SM11P_11
V41  B11:IO_L16N_SM12N_11
V42  BGNDG:GND342  pas
W1  BNAB:MGTRXN1_112
W2  BGNDA:GND5  pas
W3  BNAA:MGTAVCC_1120
W4  BNAA:MGTAVCC_1121
W5  B12:IO_L2P_12
W6  B12:IO_L2N_12
W7  B12:IO_L4N_VREF_12
W8  B12:IO_L6P_12
W9  BGNDB:GND54  pas
W10  B12:IO_L18N_12
W11  B12:IO_L18P_12
W12  BVCCAUX:VCCAUX2  pas
W13  BGNDB:GND84  pas
W14  BVCCINTA:VCCINT5  pas
W15  BGNDC:GND105  pas
W16  BVCCINTA:VCCINT18  pas
W17  BGNDC:GND129  pas
W18  BVCCINTA:VCCINT32  pas
W19  BGNDD:GND155  pas
W20  BVCCINTB:VCCINT47  pas
W21  BGNDD:GND177  pas
W22  BVCCINTB:VCCINT61  pas
W23  BGNDD:GND195  pas
W24  BVCCINTB:VCCINT74  pas
W25  BGNDE:GND218  pas
W26  BVCCINTC:VCCINT89  pas
W27  BGNDE:GND241  pas
W28  BVCCINTC:VCCINT103  pas
W29  BGNDF:GND262  pas
W30  BVCCAUX:VCCAUX13  pas
W31  BGNDF:GND280  pas
W32  B19:IO_L18N_19
W33  B19:IO_L17N_19
W34  BGNDG:GND302  pas
W35  B15:IO_L18N_15
W36  B15:IO_L19P_15
W37  B15:IO_L19N_15
W38  B15:IO_L15N_15
W39  BGNDG:GND326  pas
W40  B11:IO_L8P_CC_11
W41  B11:IO_L17N_SM11N_11
W42  B11:IO_L18P_SM10P_11
Y1  BNAC:MGTRXP1_112
Y2  BNAC:MGTTXN1_112
Y3  BNAA:MGTAVCCPLL_112
Y4  BGNDA:GND21  pas
Y6  BGNDA:GND39  pas
Y7  B12:IO_L4P_12
Y8  B12:IO_L19N_12
Y9  B12:IO_L19P_12
Y10  B12:IO_L17N_12
Y11  BGNDB:GND66  pas
Y12  BGNDB:GND75  pas
Y13  BVCCINTA:VCCINT1  pas
Y14  BGNDB:GND94  pas
Y15  BVCCINTA:VCCINT12  pas
Y16  BGNDC:GND119  pas
Y17  BVCCINTA:VCCINT25  pas
Y18  BGNDC:GND141  pas
Y19  BVCCINTB:VCCINT40  pas
Y20  BGNDD:GND167  pas
Y21  B0:AVSS_0
Y22  B0:AVDD_0
Y23  BVCCINTB:VCCINT67  pas
Y24  BGNDE:GND208  pas
Y25  BVCCINTC:VCCINT82  pas
Y26  BGNDE:GND230  pas
Y27  BVCCINTC:VCCINT96  pas
Y28  BGNDF:GND253  pas
Y29  BVCCINTC:VCCINT109  pas
Y30  BGNDF:GND272  pas
Y31  BVCCAUX:VCCAUX17  pas
Y32  B19:IO_L19P_19
Y33  B19:IO_L18P_19
Y34  B15:IO_L17N_15
Y35  B15:IO_L18P_15
Y36  BGNDG:GND312  pas
Y37  B11:IO_L11P_CC_SM14P_11
Y38  B11:IO_L10N_CC_SM15N_11
Y39  B11:IO_L10P_CC_SM15P_11
Y40  B11:IO_L8N_CC_11
Y41  B11:VCCO_112  pas
Y42  B11:IO_L18N_SM10N_11

## Footprint FF1738 (pad centres in mm)
smd 0.45 x 0.45: A2 -19.5,20.5; A3 -18.5,20.5; A4 -17.5,20.5; A5 -16.5,20.5; A8 -13.5,20.5; A9 -12.5,20.5; A10 -11.5,20.5; A11 -10.5,20.5; A14 -7.5,20.5; A15 -6.5,20.5; A16 -5.5,20.5; A17 -4.5,20.5; A19 -2.5,20.5; A20 -1.5,20.5; A21 -0.5,20.5; A22 0.5,20.5; A23 1.5,20.5; A24 2.5,20.5; A25 3.5,20.5; A26 4.5,20.5; A27 5.5,20.5; A28 6.5,20.5; A29 7.5,20.5; A30 8.5,20.5; A31 9.5,20.5; A32 10.5,20.5; A33 11.5,20.5; A34 12.5,20.5; A35 13.5,20.5; A36 14.5,20.5; A37 15.5,20.5; A38 16.5,20.5; A39 17.5,20.5; A40 18.5,20.5; A41 19.5,20.5; AA2 -19.5,0.5; AA3 -18.5,0.5; AA4 -17.5,0.5; AA5 -16.5,0.5; AA6 -15.5,0.5; AA7 -14.5,0.5; AA8 -13.5,0.5; AA9 -12.5,0.5; AA10 -11.5,0.5; AA11 -10.5,0.5; AA12 -9.5,0.5; AA13 -8.5,0.5; AA14 -7.5,0.5; AA15 -6.5,0.5; AA16 -5.5,0.5; AA17 -4.5,0.5; AA18 -3.5,0.5; AA19 -2.5,0.5; AA20 -1.5,0.5; AA21 -0.5,0.5; AA22 0.5,0.5; AA23 1.5,0.5; AA24 2.5,0.5; AA25 3.5,0.5; AA26 4.5,0.5; AA27 5.5,0.5; AA28 6.5,0.5; AA29 7.5,0.5; AA30 8.5,0.5; AA31 9.5,0.5; AA32 10.5,0.5; AA33 11.5,0.5; AA34 12.5,0.5; AA35 13.5,0.5; AA36 14.5,0.5; AA37 15.5,0.5; AA38 16.5,0.5; AA39 17.5,0.5; AA40 18.5,0.5; AA41 19.5,0.5; AA42 20.5,0.5; AB2 -19.5,-0.5; AB3 -18.5,-0.5; AB4 -17.5,-0.5; AB5 -16.5,-0.5; AB6 -15.5,-0.5; AB7 -14.5,-0.5; AB8 -13.5,-0.5; AB9 -12.5,-0.5; AB10 -11.5,-0.5; AB11 -10.5,-0.5; AB12 -9.5,-0.5; AB13 -8.5,-0.5; AB14 -7.5,-0.5; AB15 -6.5,-0.5; AB16 -5.5,-0.5; AB17 -4.5,-0.5; AB18 -3.5,-0.5; AB19 -2.5,-0.5; AB20 -1.5,-0.5; AB21 -0.5,-0.5; AB22 0.5,-0.5; AB23 1.5,-0.5; AB24 2.5,-0.5; AB25 3.5,-0.5; AB26 4.5,-0.5; AB27 5.5,-0.5; AB28 6.5,-0.5; AB29 7.5,-0.5; AB30 8.5,-0.5; AB31 9.5,-0.5; AB32 10.5,-0.5; AB33 11.5,-0.5; AB34 12.5,-0.5; AB35 13.5,-0.5; AB36 14.5,-0.5; AB37 15.5,-0.5; AB38 16.5,-0.5; AB39 17.5,-0.5; AB40 18.5,-0.5; AB41 19.5,-0.5; AB42 20.5,-0.5; AC1 -20.5,-1.5; AC2 -19.5,-1.5; AC3 -18.5,-1.5; AC4 -17.5,-1.5; AC5 -16.5,-1.5; AC6 -15.5,-1.5; AC7 -14.5,-1.5; AC8 -13.5,-1.5; AC9 -12.5,-1.5; AC10 -11.5,-1.5; AC11 -10.5,-1.5; AC12 -9.5,-1.5; AC13 -8.5,-1.5; AC14 -7.5,-1.5; AC15 -6.5,-1.5; AC16 -5.5,-1.5; AC17 -4.5,-1.5; AC18 -3.5,-1.5; AC19 -2.5,-1.5; AC20 -1.5,-1.5; AC21 -0.5,-1.5; AC22 0.5,-1.5; AC23 1.5,-1.5; AC24 2.5,-1.5; AC25 3.5,-1.5; AC26 4.5,-1.5; AC27 5.5,-1.5; AC28 6.5,-1.5; AC29 7.5,-1.5; AC30 8.5,-1.5; AC31 9.5,-1.5; AC32 10.5,-1.5; AC33 11.5,-1.5; AC34 12.5,-1.5; AC35 13.5,-1.5; AC36 14.5,-1.5; AC37 15.5,-1.5; AC38 16.5,-1.5; AC39 17.5,-1.5; AC40 18.5,-1.5; AC41 19.5,-1.5; AC42 20.5,-1.5; AD1 -20.5,-2.5; AD2 -19.5,-2.5; AD3 -18.5,-2.5; AD4 -17.5,-2.5; AD5 -16.5,-2.5; AD6 -15.5,-2.5; AD7 -14.5,-2.5; AD8 -13.5,-2.5; AD9 -12.5,-2.5; AD10 -11.5,-2.5; AD11 -10.5,-2.5; AD12 -9.5,-2.5; AD13 -8.5,-2.5; AD14 -7.5,-2.5; AD15 -6.5,-2.5; AD16 -5.5,-2.5; AD17 -4.5,-2.5; AD18 -3.5,-2.5; AD19 -2.5,-2.5; AD20 -1.5,-2.5; AD21 -0.5,-2.5; AD22 0.5,-2.5; AD23 1.5,-2.5; AD24 2.5,-2.5; AD25 3.5,-2.5; AD26 4.5,-2.5; AD27 5.5,-2.5; AD28 6.5,-2.5; AD29 7.5,-2.5; AD30 8.5,-2.5; AD31 9.5,-2.5; AD32 10.5,-2.5; AD33 11.5,-2.5; AD34 12.5,-2.5; AD35 13.5,-2.5; AD36 14.5,-2.5; AD37 15.5,-2.5; AD38 16.5,-2.5; AD39 17.5,-2.5; AD40 18.5,-2.5; AD41 19.5,-2.5; AD42 20.5,-2.5; AE1 -20.5,-3.5; AE2 -19.5,-3.5; AE3 -18.5,-3.5; AE4 -17.5,-3.5; AE5 -16.5,-3.5; AE6 -15.5,-3.5; AE7 -14.5,-3.5; AE8 -13.5,-3.5; AE9 -12.5,-3.5; AE10 -11.5,-3.5; AE11 -10.5,-3.5; AE12 -9.5,-3.5; AE13 -8.5,-3.5; AE14 -7.5,-3.5; AE15 -6.5,-3.5; AE16 -5.5,-3.5; AE17 -4.5,-3.5; AE18 -3.5,-3.5; AE19 -2.5,-3.5; AE20 -1.5,-3.5; AE21 -0.5,-3.5; AE22 0.5,-3.5; AE23 1.5,-3.5; AE24 2.5,-3.5; AE25 3.5,-3.5; AE26 4.5,-3.5; AE27 5.5,-3.5; AE28 6.5,-3.5; AE29 7.5,-3.5; AE30 8.5,-3.5; AE31 9.5,-3.5; AE32 10.5,-3.5; AE33 11.5,-3.5; AE34 12.5,-3.5; AE35 13.5,-3.5; AE36 14.5,-3.5; AE37 15.5,-3.5; AE38 16.5,-3.5; AE39 17.5,-3.5; AE40 18.5,-3.5; AE41 19.5,-3.5; AE42 20.5,-3.5; AF1 -20.5,-4.5; AF2 -19.5,-4.5; AF3 -18.5,-4.5; AF4 -17.5,-4.5; AF5 -16.5,-4.5; AF6 -15.5,-4.5; AF7 -14.5,-4.5; AF8 -13.5,-4.5; AF9 -12.5,-4.5; AF10 -11.5,-4.5; AF11 -10.5,-4.5; AF12 -9.5,-4.5; AF13 -8.5,-4.5; AF14 -7.5,-4.5; AF15 -6.5,-4.5; AF16 -5.5,-4.5; AF17 -4.5,-4.5; AF18 -3.5,-4.5; AF19 -2.5,-4.5; AF20 -1.5,-4.5; AF21 -0.5,-4.5; AF22 0.5,-4.5; AF23 1.5,-4.5; AF24 2.5,-4.5; AF25 3.5,-4.5; AF26 4.5,-4.5; AF27 5.5,-4.5; AF28 6.5,-4.5; AF29 7.5,-4.5; AF30 8.5,-4.5; AF31 9.5,-4.5; AF32 10.5,-4.5; AF33 11.5,-4.5; AF34 12.5,-4.5; AF35 13.5,-4.5; AF36 14.5,-4.5; AF37 15.5,-4.5; AF38 16.5,-4.5; AF39 17.5,-4.5; AF40 18.5,-4.5; AF41 19.5,-4.5; AF42 20.5,-4.5; AG2 -19.5,-5.5; AG3 -18.5,-5.5; AG4 -17.5,-5.5; AG5 -16.5,-5.5; AG6 -15.5,-5.5; AG7 -14.5,-5.5; AG8 -13.5,-5.5; AG9 -12.5,-5.5; AG10 -11.5,-5.5; AG11 -10.5,-5.5; AG12 -9.5,-5.5; AG13 -8.5,-5.5; AG14 -7.5,-5.5; AG15 -6.5,-5.5; AG16 -5.5,-5.5; AG17 -4.5,-5.5; AG18 -3.5,-5.5; AG19 -2.5,-5.5; AG20 -1.5,-5.5; AG21 -0.5,-5.5; AG22 0.5,-5.5; AG23 1.5,-5.5; AG24 2.5,-5.5; AG25 3.5,-5.5; AG26 4.5,-5.5; AG27 5.5,-5.5; AG28 6.5,-5.5; AG29 7.5,-5.5; AG30 8.5,-5.5; AG31 9.5,-5.5; AG32 10.5,-5.5; AG33 11.5,-5.5; AG34 12.5,-5.5; AG35 13.5,-5.5; AG36 14.5,-5.5; AG37 15.5,-5.5; AG38 16.5,-5.5; AG39 17.5,-5.5; AG40 18.5,-5.5; AG41 19.5,-5.5; AG42 20.5,-5.5; AH2 -19.5,-6.5; AH3 -18.5,-6.5; AH4 -17.5,-6.5; AH5 -16.5,-6.5; AH6 -15.5,-6.5; AH7 -14.5,-6.5; AH8 -13.5,-6.5; AH9 -12.5,-6.5; AH10 -11.5,-6.5; AH11 -10.5,-6.5; AH12 -9.5,-6.5; AH13 -8.5,-6.5; AH14 -7.5,-6.5; AH15 -6.5,-6.5; AH16 -5.5,-6.5; AH17 -4.5,-6.5; AH18 -3.5,-6.5; AH19 -2.5,-6.5; AH20 -1.5,-6.5; AH21 -0.5,-6.5; AH22 0.5,-6.5; AH23 1.5,-6.5; AH24 2.5,-6.5; AH25 3.5,-6.5; AH26 4.5,-6.5; AH27 5.5,-6.5; AH28 6.5,-6.5; AH29 7.5,-6.5; AH30 8.5,-6.5; AH31 9.5,-6.5; AH32 10.5,-6.5; AH33 11.5,-6.5; AH34 12.5,-6.5; AH35 13.5,-6.5; AH36 14.5,-6.5; AH37 15.5,-6.5; AH38 16.5,-6.5; AH39 17.5,-6.5; AH40 18.5,-6.5; AH41 19.5,-6.5; AH42 20.5,-6.5; AJ1 -20.5,-7.5; AJ2 -19.5,-7.5; AJ3 -18.5,-7.5; AJ4 -17.5,-7.5; AJ5 -16.5,-7.5; AJ6 -15.5,-7.5; AJ7 -14.5,-7.5; AJ8 -13.5,-7.5; AJ9 -12.5,-7.5; AJ10 -11.5,-7.5; AJ11 -10.5,-7.5; AJ12 -9.5,-7.5; AJ13 -8.5,-7.5; AJ14 -7.5,-7.5; AJ15 -6.5,-7.5; AJ16 -5.5,-7.5; AJ17 -4.5,-7.5; AJ18 -3.5,-7.5; AJ19 -2.5,-7.5; AJ20 -1.5,-7.5; AJ21 -0.5,-7.5; AJ22 0.5,-7.5; AJ23 1.5,-7.5; AJ24 2.5,-7.5; AJ25 3.5,-7.5; AJ26 4.5,-7.5; AJ27 5.5,-7.5; AJ28 6.5,-7.5; AJ29 7.5,-7.5; AJ30 8.5,-7.5; AJ31 9.5,-7.5; AJ32 10.5,-7.5; AJ33 11.5,-7.5; AJ34 12.5,-7.5; AJ35 13.5,-7.5; AJ36 14.5,-7.5; AJ37 15.5,-7.5; AJ38 16.5,-7.5; AJ39 17.5,-7.5; AJ40 18.5,-7.5; AJ41 19.5,-7.5; AJ42 20.5,-7.5; AK1 -20.5,-8.5; AK2 -19.5,-8.5; AK3 -18.5,-8.5; AK4 -17.5,-8.5; AK5 -16.5,-8.5; AK6 -15.5,-8.5; AK7 -14.5,-8.5; AK8 -13.5,-8.5; AK9 -12.5,-8.5; AK10 -11.5,-8.5; AK11 -10.5,-8.5; AK12 -9.5,-8.5; AK13 -8.5,-8.5; AK14 -7.5,-8.5; AK15 -6.5,-8.5; AK16 -5.5,-8.5; AK17 -4.5,-8.5; AK18 -3.5,-8.5; AK19 -2.5,-8.5; AK20 -1.5,-8.5; AK21 -0.5,-8.5; AK22 0.5,-8.5; AK23 1.5,-8.5; AK24 2.5,-8.5; AK25 3.5,-8.5; AK26 4.5,-8.5; AK27 5.5,-8.5; AK28 6.5,-8.5; AK29 7.5,-8.5; AK30 8.5,-8.5; AK31 9.5,-8.5; AK32 10.5,-8.5; AK33 11.5,-8.5; AK34 12.5,-8.5; AK35 13.5,-8.5; AK36 14.5,-8.5; AK37 15.5,-8.5; AK38 16.5,-8.5; AK39 17.5,-8.5; AK40 18.5,-8.5; AK41 19.5,-8.5; AK42 20.5,-8.5; AL1 -20.5,-9.5; AL2 -19.5,-9.5; AL3 -18.5,-9.5; AL4 -17.5,-9.5; AL5 -16.5,-9.5; AL6 -15.5,-9.5; AL7 -14.5,-9.5; AL8 -13.5,-9.5; AL9 -12.5,-9.5; AL10 -11.5,-9.5; AL11 -10.5,-9.5; AL12 -9.5,-9.5; AL13 -8.5,-9.5; AL14 -7.5,-9.5; AL15 -6.5,-9.5; AL16 -5.5,-9.5; AL17 -4.5,-9.5; AL18 -3.5,-9.5; AL19 -2.5,-9.5; AL20 -1.5,-9.5; AL21 -0.5,-9.5; AL22 0.5,-9.5; AL23 1.5,-9.5; AL24 2.5,-9.5; AL25 3.5,-9.5; AL26 4.5,-9.5; AL27 5.5,-9.5; AL28 6.5,-9.5; AL29 7.5,-9.5; AL30 8.5,-9.5; AL31 9.5,-9.5; AL32 10.5,-9.5; AL33 11.5,-9.5; AL34 12.5,-9.5; AL35 13.5,-9.5; AL36 14.5,-9.5; AL37 15.5,-9.5; AL38 16.5,-9.5; AL39 17.5,-9.5; AL40 18.5,-9.5; AL41 19.5,-9.5; AL42 20.5,-9.5; AM1 -20.5,-10.5; AM2 -19.5,-10.5; AM3 -18.5,-10.5; AM4 -17.5,-10.5; AM5 -16.5,-10.5; AM6 -15.5,-10.5; AM7 -14.5,-10.5; AM8 -13.5,-10.5; AM9 -12.5,-10.5; AM10 -11.5,-10.5; AM11 -10.5,-10.5; AM12 -9.5,-10.5; AM13 -8.5,-10.5; AM14 -7.5,-10.5; AM15 -6.5,-10.5; AM16 -5.5,-10.5; AM17 -4.5,-10.5; AM18 -3.5,-10.5; AM19 -2.5,-10.5; AM20 -1.5,-10.5; AM21 -0.5,-10.5; AM22 0.5,-10.5; AM23 1.5,-10.5; AM24 2.5,-10.5; AM25 3.5,-10.5; AM26 4.5,-10.5; AM27 5.5,-10.5; AM28 6.5,-10.5; AM29 7.5,-10.5; AM30 8.5,-10.5; AM31 9.5,-10.5; AM32 10.5,-10.5; AM33 11.5,-10.5; AM34 12.5,-10.5; AM35 13.5,-10.5; AM36 14.5,-10.5; AM37 15.5,-10.5; AM38 16.5,-10.5; AM39 17.5,-10.5; AM40 18.5,-10.5; AM41 19.5,-10.5; AM42 20.5,-10.5; AN2 -19.5,-11.5; AN3 -18.5,-11.5; AN4 -17.5,-11.5; AN5 -16.5,-11.5; AN6 -15.5,-11.5; AN7 -14.5,-11.5; AN8 -13.5,-11.5; AN9 -12.5,-11.5; AN10 -11.5,-11.5; AN11 -10.5,-11.5; AN12 -9.5,-11.5; AN13 -8.5,-11.5; AN14 -7.5,-11.5; AN15 -6.5,-11.5; AN16 -5.5,-11.5; AN17 -4.5,-11.5; AN18 -3.5,-11.5; AN19 -2.5,-11.5; AN20 -1.5,-11.5; AN21 -0.5,-11.5; AN22 0.5,-11.5; AN23 1.5,-11.5; AN24 2.5,-11.5; AN25 3.5,-11.5; AN26 4.5,-11.5; AN27 5.5,-11.5; AN28 6.5,-11.5; AN29 7.5,-11.5; AN30 8.5,-11.5; AN31 9.5,-11.5; AN32 10.5,-11.5; AN33 11.5,-11.5; AN34 12.5,-11.5; AN35 13.5,-11.5; AN36 14.5,-11.5; AN37 15.5,-11.5; AN38 16.5,-11.5; AN39 17.5,-11.5; AN40 18.5,-11.5; AN41 19.5,-11.5; AN42 20.5,-11.5; AP2 -19.5,-12.5; AP3 -18.5,-12.5; AP4 -17.5,-12.5; AP5 -16.5,-12.5; AP6 -15.5,-12.5; AP7 -14.5,-12.5; AP8 -13.5,-12.5; AP9 -12.5,-12.5; AP10 -11.5,-12.5; AP11 -10.5,-12.5; AP12 -9.5,-12.5; AP13 -8.5,-12.5; AP14 -7.5,-12.5; AP15 -6.5,-12.5; AP16 -5.5,-12.5; AP17 -4.5,-12.5; AP18 -3.5,-12.5; AP19 -2.5,-12.5; AP20 -1.5,-12.5; AP21 -0.5,-12.5; AP22 0.5,-12.5; AP23 1.5,-12.5; AP24 2.5,-12.5; AP25 3.5,-12.5; AP26 4.5,-12.5; AP27 5.5,-12.5; AP28 6.5,-12.5; AP29 7.5,-12.5; AP30 8.5,-12.5; AP31 9.5,-12.5; AP32 10.5,-12.5; AP33 11.5,-12.5; AP34 12.5,-12.5; AP35 13.5,-12.5; AP36 14.5,-12.5; AP37 15.5,-12.5; AP38 16.5,-12.5; AP39 17.5,-12.5; AP40 18.5,-12.5; AP41 19.5,-12.5; AP42 20.5,-12.5; AR1 -20.5,-13.5; AR2 -19.5,-13.5; AR3 -18.5,-13.5; AR4 -17.5,-13.5; AR5 -16.5,-13.5; AR6 -15.5,-13.5; AR7 -14.5,-13.5; AR8 -13.5,-13.5; AR9 -12.5,-13.5; AR10 -11.5,-13.5; AR11 -10.5,-13.5; AR12 -9.5,-13.5; AR13 -8.5,-13.5; AR14 -7.5,-13.5; AR15 -6.5,-13.5; AR16 -5.5,-13.5; AR17 -4.5,-13.5; AR18 -3.5,-13.5; AR19 -2.5,-13.5; AR20 -1.5,-13.5; AR21 -0.5,-13.5; AR22 0.5,-13.5; AR23 1.5,-13.5; AR24 2.5,-13.5; AR25 3.5,-13.5; AR26 4.5,-13.5; AR27 5.5,-13.5; AR28 6.5,-13.5; AR29 7.5,-13.5; AR30 8.5,-13.5; AR31 9.5,-13.5; AR32 10.5,-13.5; AR33 11.5,-13.5; AR34 12.5,-13.5; AR35 13.5,-13.5; AR36 14.5,-13.5; AR37 15.5,-13.5; AR38 16.5,-13.5; AR39 17.5,-13.5; AR40 18.5,-13.5; AR41 19.5,-13.5; AR42 20.5,-13.5; AT1 -20.5,-14.5; AT2 -19.5,-14.5; AT3 -18.5,-14.5; AT4 -17.5,-14.5; AT5 -16.5,-14.5; AT6 -15.5,-14.5; AT7 -14.5,-14.5; AT8 -13.5,-14.5; AT9 -12.5,-14.5; AT10 -11.5,-14.5; AT11 -10.5,-14.5; AT12 -9.5,-14.5; AT13 -8.5,-14.5; AT14 -7.5,-14.5; AT15 -6.5,-14.5; AT16 -5.5,-14.5; AT17 -4.5,-14.5; AT18 -3.5,-14.5; AT19 -2.5,-14.5; AT20 -1.5,-14.5; AT21 -0.5,-14.5; AT22 0.5,-14.5; AT23 1.5,-14.5; AT24 2.5,-14.5; AT25 3.5,-14.5; AT26 4.5,-14.5; AT27 5.5,-14.5; AT28 6.5,-14.5; AT29 7.5,-14.5; AT30 8.5,-14.5; AT31 9.5,-14.5; AT32 10.5,-14.5; AT33 11.5,-14.5; AT34 12.5,-14.5; AT35 13.5,-14.5; AT36 14.5,-14.5; AT37 15.5,-14.5; AT38 16.5,-14.5; AT39 17.5,-14.5; AT40 18.5,-14.5; AT41 19.5,-14.5; AT42 20.5,-14.5; AU1 -20.5,-15.5; AU2 -19.5,-15.5; AU3 -18.5,-15.5; AU4 -17.5,-15.5; AU5 -16.5,-15.5; AU6 -15.5,-15.5; AU7 -14.5,-15.5; AU8 -13.5,-15.5; AU9 -12.5,-15.5; AU10 -11.5,-15.5; AU11 -10.5,-15.5; AU12 -9.5,-15.5; AU13 -8.5,-15.5; AU14 -7.5,-15.5; AU15 -6.5,-15.5; AU16 -5.5,-15.5; AU17 -4.5,-15.5; AU18 -3.5,-15.5; AU19 -2.5,-15.5; AU20 -1.5,-15.5; AU21 -0.5,-15.5; AU22 0.5,-15.5; AU23 1.5,-15.5; AU24 2.5,-15.5; AU25 3.5,-15.5; AU26 4.5,-15.5; AU27 5.5,-15.5; AU28 6.5,-15.5; AU29 7.5,-15.5; AU30 8.5,-15.5; AU31 9.5,-15.5; AU32 10.5,-15.5; AU33 11.5,-15.5; AU34 12.5,-15.5; AU35 13.5,-15.5; AU36 14.5,-15.5; AU37 15.5,-15.5; AU38 16.5,-15.5; AU39 17.5,-15.5; AU40 18.5,-15.5; AU41 19.5,-15.5; AU42 20.5,-15.5; AV1 -20.5,-16.5; AV2 -19.5,-16.5; AV3 -18.5,-16.5; AV4 -17.5,-16.5; AV5 -16.5,-16.5; AV6 -15.5,-16.5; AV7 -14.5,-16.5; AV8 -13.5,-16.5; AV9 -12.5,-16.5; AV10 -11.5,-16.5; AV11 -10.5,-16.5; AV12 -9.5,-16.5; AV13 -8.5,-16.5; AV14 -7.5,-16.5; AV15 -6.5,-16.5; AV16 -5.5,-16.5; AV17 -4.5,-16.5; AV18 -3.5,-16.5; AV19 -2.5,-16.5; AV20 -1.5,-16.5; AV21 -0.5,-16.5; AV22 0.5,-16.5; AV23 1.5,-16.5; AV24 2.5,-16.5; AV25 3.5,-16.5; AV26 4.5,-16.5; AV27 5.5,-16.5; AV28 6.5,-16.5; AV29 7.5,-16.5; AV30 8.5,-16.5; AV31 9.5,-16.5; AV32 10.5,-16.5; AV33 11.5,-16.5; AV34 12.5,-16.5; AV35 13.5,-16.5; AV36 14.5,-16.5; AV37 15.5,-16.5; AV38 16.5,-16.5; AV39 17.5,-16.5; AV40 18.5,-16.5; AV41 19.5,-16.5; AV42 20.5,-16.5; AW2 -19.5,-17.5; AW3 -18.5,-17.5; AW4 -17.5,-17.5; AW5 -16.5,-17.5; AW6 -15.5,-17.5; AW7 -14.5,-17.5; AW8 -13.5,-17.5; AW9 -12.5,-17.5; AW10 -11.5,-17.5; AW11 -10.5,-17.5; AW12 -9.5,-17.5; AW13 -8.5,-17.5; AW14 -7.5,-17.5; AW15 -6.5,-17.5; AW16 -5.5,-17.5; AW17 -4.5,-17.5; AW18 -3.5,-17.5; AW19 -2.5,-17.5; AW20 -1.5,-17.5; AW21 -0.5,-17.5; AW22 0.5,-17.5; AW23 1.5,-17.5; AW24 2.5,-17.5; AW25 3.5,-17.5; AW26 4.5,-17.5; AW27 5.5,-17.5; AW28 6.5,-17.5; AW29 7.5,-17.5; AW30 8.5,-17.5; AW31 9.5,-17.5; AW32 10.5,-17.5; AW33 11.5,-17.5; AW34 12.5,-17.5; AW35 13.5,-17.5; AW36 14.5,-17.5; AW37 15.5,-17.5; AW38 16.5,-17.5; AW39 17.5,-17.5; AW40 18.5,-17.5; AW41 19.5,-17.5; AW42 20.5,-17.5; AY1 -20.5,-18.5; AY2 -19.5,-18.5; AY3 -18.5,-18.5; AY4 -17.5,-18.5; AY5 -16.5,-18.5; AY6 -15.5,-18.5; AY7 -14.5,-18.5; AY8 -13.5,-18.5; AY9 -12.5,-18.5; AY10 -11.5,-18.5; AY11 -10.5,-18.5; AY12 -9.5,-18.5; AY13 -8.5,-18.5; AY14 -7.5,-18.5; AY15 -6.5,-18.5; AY16 -5.5,-18.5; AY17 -4.5,-18.5; AY18 -3.5,-18.5; AY19 -2.5,-18.5; AY20 -1.5,-18.5; AY21 -0.5,-18.5; AY22 0.5,-18.5; AY23 1.5,-18.5; AY24 2.5,-18.5; AY25 3.5,-18.5; AY26 4.5,-18.5; AY27 5.5,-18.5; AY28 6.5,-18.5; AY29 7.5,-18.5; AY30 8.5,-18.5; AY31 9.5,-18.5; AY32 10.5,-18.5; AY33 11.5,-18.5; AY34 12.5,-18.5; AY35 13.5,-18.5; AY36 14.5,-18.5; AY37 15.5,-18.5; AY38 16.5,-18.5; AY39 17.5,-18.5; AY40 18.5,-18.5; AY41 19.5,-18.5; AY42 20.5,-18.5; B1 -20.5,19.5; B2 -19.5,19.5; B3 -18.5,19.5; B4 -17.5,19.5; B5 -16.5,19.5; B6 -15.5,19.5; B7 -14.5,19.5; B8 -13.5,19.5; B9 -12.5,19.5; B10 -11.5,19.5; B11 -10.5,19.5; B12 -9.5,19.5; B13 -8.5,19.5; B14 -7.5,19.5; B15 -6.5,19.5; B16 -5.5,19.5; B17 -4.5,19.5; B18 -3.5,19.5; B19 -2.5,19.5; B20 -1.5,19.5; B21 -0.5,19.5; B22 0.5,19.5; B23 1.5,19.5; B24 2.5,19.5; B25 3.5,19.5; B26 4.5,19.5; B27 5.5,19.5; B28 6.5,19.5; B29 7.5,19.5; B30 8.5,19.5; B31 9.5,19.5; B32 10.5,19.5; B33 11.5,19.5; B34 12.5,19.5; B35 13.5,19.5; B36 14.5,19.5; B37 15.5,19.5; B38 16.5,19.5; B39 17.5,19.5; B40 18.5,19.5; B41 19.5,19.5; B42 20.5,19.5; BA1 -20.5,-19.5; BA2 -19.5,-19.5; BA3 -18.5,-19.5; BA4 -17.5,-19.5; BA5 -16.5,-19.5; BA6 -15.5,-19.5; BA7 -14.5,-19.5; BA8 -13.5,-19.5; BA9 -12.5,-19.5; BA10 -11.5,-19.5; BA11 -10.5,-19.5; BA12 -9.5,-19.5; BA13 -8.5,-19.5; BA14 -7.5,-19.5; BA15 -6.5,-19.5; BA16 -5.5,-19.5; BA17 -4.5,-19.5; BA18 -3.5,-19.5; BA19 -2.5,-19.5; BA20 -1.5,-19.5; BA21 -0.5,-19.5; BA22 0.5,-19.5; BA23 1.5,-19.5; BA24 2.5,-19.5; BA25 3.5,-19.5; BA26 4.5,-19.5; BA27 5.5,-19.5; BA28 6.5,-19.5; BA29 7.5,-19.5; BA30 8.5,-19.5; BA31 9.5,-19.5; BA32 10.5,-19.5; BA33 11.5,-19.5; BA34 12.5,-19.5; BA35 13.5,-19.5; BA36 14.5,-19.5; BA37 15.5,-19.5; BA38 16.5,-19.5; BA39 17.5,-19.5; BA40 18.5,-19.5; BA41 19.5,-19.5; BA42 20.5,-19.5; BB2 -19.5,-20.5; BB3 -18.5,-20.5; BB4 -17.5,-20.5; BB5 -16.5,-20.5; BB8 -13.5,-20.5; BB9 -12.5,-20.5; BB10 -11.5,-20.5; BB11 -10.5,-20.5; BB14 -7.5,-20.5; BB15 -6.5,-20.5; BB16 -5.5,-20.5; BB17 -4.5,-20.5; BB19 -2.5,-20.5; BB20 -1.5,-20.5; BB21 -0.5,-20.5; BB22 0.5,-20.5; BB23 1.5,-20.5; BB24 2.5,-20.5; BB25 3.5,-20.5; BB26 4.5,-20.5; BB27 5.5,-20.5; BB28 6.5,-20.5; BB29 7.5,-20.5; BB30 8.5,-20.5; BB31 9.5,-20.5; BB32 10.5,-20.5; BB33 11.5,-20.5; BB34 12.5,-20.5; BB35 13.5,-20.5; BB36 14.5,-20.5; BB37 15.5,-20.5; BB38 16.5,-20.5; BB39 17.5,-20.5; BB40 18.5,-20.5; BB41 19.5,-20.5; C1 -20.5,18.5; C2 -19.5,18.5; C3 -18.5,18.5; C4 -17.5,18.5; C5 -16.5,18.5; C6 -15.5,18.5; C7 -14.5,18.5; C8 -13.5,18.5; C9 -12.5,18.5; C10 -11.5,18.5; C11 -10.5,18.5; C12 -9.5,18.5; C13 -8.5,18.5; C14 -7.5,18.5; C15 -6.5,18.5; C16 -5.5,18.5; C17 -4.5,18.5; C18 -3.5,18.5; C19 -2.5,18.5; C20 -1.5,18.5; C21 -0.5,18.5; C22 0.5,18.5; C23 1.5,18.5; C24 2.5,18.5; C25 3.5,18.5; C26 4.5,18.5; C27 5.5,18.5; C28 6.5,18.5; C29 7.5,18.5; C30 8.5,18.5; C31 9.5,18.5; C32 10.5,18.5; C33 11.5,18.5; C34 12.5,18.5; C35 13.5,18.5; C36 14.5,18.5; C37 15.5,18.5; C38 16.5,18.5; C39 17.5,18.5; C40 18.5,18.5; C41 19.5,18.5; C42 20.5,18.5; D2 -19.5,17.5; D3 -18.5,17.5; D4 -17.5,17.5; D5 -16.5,17.5; D6 -15.5,17.5; D7 -14.5,17.5; D8 -13.5,17.5; D9 -12.5,17.5; D10 -11.5,17.5; D11 -10.5,17.5; D12 -9.5,17.5; D13 -8.5,17.5; D14 -7.5,17.5; D15 -6.5,17.5; D16 -5.5,17.5; D17 -4.5,17.5; D18 -3.5,17.5; D19 -2.5,17.5; D20 -1.5,17.5; D21 -0.5,17.5; D22 0.5,17.5; D23 1.5,17.5; D24 2.5,17.5; D25 3.5,17.5; D26 4.5,17.5; D27 5.5,17.5; D28 6.5,17.5; D29 7.5,17.5; D30 8.5,17.5; D31 9.5,17.5; D32 10.5,17.5; D33 11.5,17.5; D34 12.5,17.5; D35 13.5,17.5; D36 14.5,17.5; D37 15.5,17.5; D38 16.5,17.5; D39 17.5,17.5; D40 18.5,17.5; D41 19.5,17.5; D42 20.5,17.5; E1 -20.5,16.5; E2 -19.5,16.5; E3 -18.5,16.5; E4 -17.5,16.5; E5 -16.5,16.5; E6 -15.5,16.5; E7 -14.5,16.5; E8 -13.5,16.5; E9 -12.5,16.5; E10 -11.5,16.5; E11 -10.5,16.5; E12 -9.5,16.5; E13 -8.5,16.5; E14 -7.5,16.5; E15 -6.5,16.5; E16 -5.5,16.5; E17 -4.5,16.5; E18 -3.5,16.5; E19 -2.5,16.5; E20 -1.5,16.5; E21 -0.5,16.5; E22 0.5,16.5; E23 1.5,16.5; E24 2.5,16.5; E25 3.5,16.5; E26 4.5,16.5; E27 5.5,16.5; E28 6.5,16.5; E29 7.5,16.5; E30 8.5,16.5; E31 9.5,16.5; E32 10.5,16.5; E33 11.5,16.5; E34 12.5,16.5; E35 13.5,16.5; E36 14.5,16.5; E37 15.5,16.5; E38 16.5,16.5; E39 17.5,16.5; E40 18.5,16.5; E41 19.5,16.5; E42 20.5,16.5; F1 -20.5,15.5; F2 -19.5,15.5; F3 -18.5,15.5; F4 -17.5,15.5; F5 -16.5,15.5; F6 -15.5,15.5; F7 -14.5,15.5; F8 -13.5,15.5; F9 -12.5,15.5; F10 -11.5,15.5; F11 -10.5,15.5; F12 -9.5,15.5; F13 -8.5,15.5; F14 -7.5,15.5; F15 -6.5,15.5; F16 -5.5,15.5; F17 -4.5,15.5; F18 -3.5,15.5; F19 -2.5,15.5; F20 -1.5,15.5; F21 -0.5,15.5; F22 0.5,15.5; F23 1.5,15.5; F24 2.5,15.5; F25 3.5,15.5; F26 4.5,15.5; F27 5.5,15.5; F28 6.5,15.5; F29 7.5,15.5; F30 8.5,15.5; F31 9.5,15.5; F32 10.5,15.5; F33 11.5,15.5; F34 12.5,15.5; F35 13.5,15.5; F36 14.5,15.5; F37 15.5,15.5; F38 16.5,15.5; F39 17.5,15.5; F40 18.5,15.5; F41 19.5,15.5; F42 20.5,15.5; G1 -20.5,14.5; G2 -19.5,14.5; G3 -18.5,14.5; G4 -17.5,14.5; G5 -16.5,14.5; G6 -15.5,14.5; G7 -14.5,14.5; G8 -13.5,14.5; G9 -12.5,14.5; G10 -11.5,14.5; G11 -10.5,14.5; G12 -9.5,14.5; G13 -8.5,14.5; G14 -7.5,14.5; G15 -6.5,14.5; G16 -5.5,14.5; G17 -4.5,14.5; G18 -3.5,14.5; G19 -2.5,14.5; G20 -1.5,14.5; G21 -0.5,14.5; G22 0.5,14.5; G23 1.5,14.5; G24 2.5,14.5; G25 3.5,14.5; G26 4.5,14.5; G27 5.5,14.5; G28 6.5,14.5; G29 7.5,14.5; G30 8.5,14.5; G31 9.5,14.5; G32 10.5,14.5; G33 11.5,14.5; G34 12.5,14.5; G35 13.5,14.5; G36 14.5,14.5; G37 15.5,14.5; G38 16.5,14.5; G39 17.5,14.5; G40 18.5,14.5; G41 19.5,14.5; G42 20.5,14.5; H1 -20.5,13.5; H2 -19.5,13.5; H3 -18.5,13.5; H4 -17.5,13.5; H5 -16.5,13.5; H6 -15.5,13.5; H7 -14.5,13.5; H8 -13.5,13.5; H9 -12.5,13.5; H10 -11.5,13.5; H11 -10.5,13.5; H12 -9.5,13.5; H13 -8.5,13.5; H14 -7.5,13.5; H15 -6.5,13.5; H16 -5.5,13.5; H17 -4.5,13.5; H18 -3.5,13.5; H19 -2.5,13.5; H20 -1.5,13.5; H21 -0.5,13.5; H22 0.5,13.5; H23 1.5,13.5; H24 2.5,13.5; H25 3.5,13.5; H26 4.5,13.5; H27 5.5,13.5; H28 6.5,13.5; H29 7.5,13.5; H30 8.5,13.5; H31 9.5,13.5; H32 10.5,13.5; H33 11.5,13.5; H34 12.5,13.5; H35 13.5,13.5; H36 14.5,13.5; H37 15.5,13.5; H38 16.5,13.5; H39 17.5,13.5; H40 18.5,13.5; H41 19.5,13.5; H42 20.5,13.5; J2 -19.5,12.5; J3 -18.5,12.5; J4 -17.5,12.5; J5 -16.5,12.5; J6 -15.5,12.5; J7 -14.5,12.5; J8 -13.5,12.5; J9 -12.5,12.5; J10 -11.5,12.5; J11 -10.5,12.5; J12 -9.5,12.5; J13 -8.5,12.5; J14 -7.5,12.5; J15 -6.5,12.5; J16 -5.5,12.5; J17 -4.5,12.5; J18 -3.5,12.5; J19 -2.5,12.5; J20 -1.5,12.5; J21 -0.5,12.5; J22 0.5,12.5; J23 1.5,12.5; J24 2.5,12.5; J25 3.5,12.5; J26 4.5,12.5; J27 5.5,12.5; J28 6.5,12.5; J29 7.5,12.5; J30 8.5,12.5; J31 9.5,12.5; J32 10.5,12.5; J33 11.5,12.5; J34 12.5,12.5; J35 13.5,12.5; J36 14.5,12.5; J37 15.5,12.5; J38 16.5,12.5; J39 17.5,12.5; J40 18.5,12.5; J41 19.5,12.5; J42 20.5,12.5; K2 -19.5,11.5; K3 -18.5,11.5; K4 -17.5,11.5; K5 -16.5,11.5; K6 -15.5,11.5; K7 -14.5,11.5; K8 -13.5,11.5; K9 -12.5,11.5; K10 -11.5,11.5; K11 -10.5,11.5; K12 -9.5,11.5; K13 -8.5,11.5; K14 -7.5,11.5; K15 -6.5,11.5; K16 -5.5,11.5; K17 -4.5,11.5; K18 -3.5,11.5; K19 -2.5,11.5; K20 -1.5,11.5; K21 -0.5,11.5; K22 0.5,11.5; K23 1.5,11.5; K24 2.5,11.5; K25 3.5,11.5; K26 4.5,11.5; K27 5.5,11.5; K28 6.5,11.5; K29 7.5,11.5; K30 8.5,11.5; K31 9.5,11.5; K32 10.5,11.5; K33 11.5,11.5; K34 12.5,11.5; K35 13.5,11.5; K36 14.5,11.5; K37 15.5,11.5; K38 16.5,11.5; K39 17.5,11.5; K40 18.5,11.5; K41 19.5,11.5; K42 20.5,11.5; L1 -20.5,10.5; L2 -19.5,10.5; L3 -18.5,10.5; L4 -17.5,10.5; L5 -16.5,10.5; L6 -15.5,10.5; L7 -14.5,10.5; L8 -13.5,10.5; L9 -12.5,10.5; L10 -11.5,10.5; L11 -10.5,10.5; L12 -9.5,10.5; L13 -8.5,10.5; L14 -7.5,10.5; L15 -6.5,10.5; L16 -5.5,10.5; L17 -4.5,10.5; L18 -3.5,10.5; L19 -2.5,10.5; L20 -1.5,10.5; L21 -0.5,10.5; L22 0.5,10.5; L23 1.5,10.5; L24 2.5,10.5; L25 3.5,10.5; L26 4.5,10.5; L27 5.5,10.5; L28 6.5,10.5; L29 7.5,10.5; L30 8.5,10.5; L31 9.5,10.5; L32 10.5,10.5; L33 11.5,10.5; L34 12.5,10.5; L35 13.5,10.5; L36 14.5,10.5; L37 15.5,10.5; L38 16.5,10.5; L39 17.5,10.5; L40 18.5,10.5; L41 19.5,10.5; L42 20.5,10.5; M1 -20.5,9.5; M2 -19.5,9.5; M3 -18.5,9.5; M4 -17.5,9.5; M5 -16.5,9.5; M6 -15.5,9.5; M7 -14.5,9.5; M8 -13.5,9.5; M9 -12.5,9.5; M10 -11.5,9.5; M11 -10.5,9.5; M12 -9.5,9.5; M13 -8.5,9.5; M14 -7.5,9.5; M15 -6.5,9.5; M16 -5.5,9.5; M17 -4.5,9.5; M18 -3.5,9.5; M19 -2.5,9.5; M20 -1.5,9.5; M21 -0.5,9.5; M22 0.5,9.5; M23 1.5,9.5; M24 2.5,9.5; M25 3.5,9.5; M26 4.5,9.5; M27 5.5,9.5; M28 6.5,9.5; M29 7.5,9.5; M30 8.5,9.5; M31 9.5,9.5; M32 10.5,9.5; M33 11.5,9.5; M34 12.5,9.5; M35 13.5,9.5; M36 14.5,9.5; M37 15.5,9.5; M38 16.5,9.5; M39 17.5,9.5; M40 18.5,9.5; M41 19.5,9.5; M42 20.5,9.5; N1 -20.5,8.5; N2 -19.5,8.5; N3 -18.5,8.5; N4 -17.5,8.5; N5 -16.5,8.5; N6 -15.5,8.5; N7 -14.5,8.5; N8 -13.5,8.5; N9 -12.5,8.5; N10 -11.5,8.5; N11 -10.5,8.5; N12 -9.5,8.5; N13 -8.5,8.5; N14 -7.5,8.5; N15 -6.5,8.5; N16 -5.5,8.5; N17 -4.5,8.5; N18 -3.5,8.5; N19 -2.5,8.5; N20 -1.5,8.5; N21 -0.5,8.5; N22 0.5,8.5; N23 1.5,8.5; N24 2.5,8.5; N25 3.5,8.5; N26 4.5,8.5; N27 5.5,8.5; N28 6.5,8.5; N29 7.5,8.5; N30 8.5,8.5; N31 9.5,8.5; N32 10.5,8.5; N33 11.5,8.5; N34 12.5,8.5; N35 13.5,8.5; N36 14.5,8.5; N37 15.5,8.5; N38 16.5,8.5; N39 17.5,8.5; N40 18.5,8.5; N41 19.5,8.5; N42 20.5,8.5; P1 -20.5,7.5; P2 -19.5,7.5; P3 -18.5,7.5; P4 -17.5,7.5; P5 -16.5,7.5; P6 -15.5,7.5; P7 -14.5,7.5; P8 -13.5,7.5; P9 -12.5,7.5; P10 -11.5,7.5; P11 -10.5,7.5; P12 -9.5,7.5; P13 -8.5,7.5; P14 -7.5,7.5; P15 -6.5,7.5; P16 -5.5,7.5; P17 -4.5,7.5; P18 -3.5,7.5; P19 -2.5,7.5; P20 -1.5,7.5; P21 -0.5,7.5; P22 0.5,7.5; P23 1.5,7.5; P24 2.5,7.5; P25 3.5,7.5; P26 4.5,7.5; P27 5.5,7.5; P28 6.5,7.5; P29 7.5,7.5; P30 8.5,7.5; P31 9.5,7.5; P32 10.5,7.5; P33 11.5,7.5; P34 12.5,7.5; P35 13.5,7.5; P36 14.5,7.5; P37 15.5,7.5; P38 16.5,7.5; P39 17.5,7.5; P40 18.5,7.5; P41 19.5,7.5; P42 20.5,7.5; R2 -19.5,6.5; R3 -18.5,6.5; R4 -17.5,6.5; R5 -16.5,6.5; R6 -15.5,6.5; R7 -14.5,6.5; R8 -13.5,6.5; R9 -12.5,6.5; R10 -11.5,6.5; R11 -10.5,6.5; R12 -9.5,6.5; R13 -8.5,6.5; R14 -7.5,6.5; R15 -6.5,6.5; R16 -5.5,6.5; R17 -4.5,6.5; R18 -3.5,6.5; R19 -2.5,6.5; R20 -1.5,6.5; R21 -0.5,6.5; R22 0.5,6.5; R23 1.5,6.5; R24 2.5,6.5; R25 3.5,6.5; R26 4.5,6.5; R27 5.5,6.5; R28 6.5,6.5; R29 7.5,6.5; R30 8.5,6.5; R31 9.5,6.5; R32 10.5,6.5; R33 11.5,6.5; R34 12.5,6.5; R35 13.5,6.5; R36 14.5,6.5; R37 15.5,6.5; R38 16.5,6.5; R39 17.5,6.5; R40 18.5,6.5; R41 19.5,6.5; R42 20.5,6.5; T2 -19.5,5.5; T3 -18.5,5.5; T4 -17.5,5.5; T5 -16.5,5.5; T6 -15.5,5.5; T7 -14.5,5.5; T8 -13.5,5.5; T9 -12.5,5.5; T10 -11.5,5.5; T11 -10.5,5.5; T12 -9.5,5.5; T13 -8.5,5.5; T14 -7.5,5.5; T15 -6.5,5.5; T16 -5.5,5.5; T17 -4.5,5.5; T18 -3.5,5.5; T19 -2.5,5.5; T20 -1.5,5.5; T21 -0.5,5.5; T22 0.5,5.5; T23 1.5,5.5; T24 2.5,5.5; T25 3.5,5.5; T26 4.5,5.5; T27 5.5,5.5; T28 6.5,5.5; T29 7.5,5.5; T30 8.5,5.5; T31 9.5,5.5; T32 10.5,5.5; T33 11.5,5.5; T34 12.5,5.5; T35 13.5,5.5; T36 14.5,5.5; T37 15.5,5.5; T38 16.5,5.5; T39 17.5,5.5; T40 18.5,5.5; T41 19.5,5.5; T42 20.5,5.5; U1 -20.5,4.5; U2 -19.5,4.5; U3 -18.5,4.5; U4 -17.5,4.5; U5 -16.5,4.5; U6 -15.5,4.5; U7 -14.5,4.5; U8 -13.5,4.5; U9 -12.5,4.5; U10 -11.5,4.5; U11 -10.5,4.5; U12 -9.5,4.5; U13 -8.5,4.5; U14 -7.5,4.5; U15 -6.5,4.5; U16 -5.5,4.5; U17 -4.5,4.5; U18 -3.5,4.5; U19 -2.5,4.5; U20 -1.5,4.5; U21 -0.5,4.5; U22 0.5,4.5; U23 1.5,4.5; U24 2.5,4.5; U25 3.5,4.5; U26 4.5,4.5; U27 5.5,4.5; U28 6.5,4.5; U29 7.5,4.5; U30 8.5,4.5; U31 9.5,4.5; U32 10.5,4.5; U33 11.5,4.5; U34 12.5,4.5; U35 13.5,4.5; U36 14.5,4.5; U37 15.5,4.5; U38 16.5,4.5; U39 17.5,4.5; U40 18.5,4.5; U41 19.5,4.5; U42 20.5,4.5; V1 -20.5,3.5; V2 -19.5,3.5; V3 -18.5,3.5; V4 -17.5,3.5; V5 -16.5,3.5; V6 -15.5,3.5; V7 -14.5,3.5; V8 -13.5,3.5; V9 -12.5,3.5; V10 -11.5,3.5; V11 -10.5,3.5; V12 -9.5,3.5; V13 -8.5,3.5; V14 -7.5,3.5; V15 -6.5,3.5; V16 -5.5,3.5; V17 -4.5,3.5; V18 -3.5,3.5; V19 -2.5,3.5; V20 -1.5,3.5; V21 -0.5,3.5; V22 0.5,3.5; V23 1.5,3.5; V24 2.5,3.5; V25 3.5,3.5; V26 4.5,3.5; V27 5.5,3.5; V28 6.5,3.5; V29 7.5,3.5; V30 8.5,3.5; V31 9.5,3.5; V32 10.5,3.5; V33 11.5,3.5; V34 12.5,3.5; V35 13.5,3.5; V36 14.5,3.5; V37 15.5,3.5; V38 16.5,3.5; V39 17.5,3.5; V40 18.5,3.5; V41 19.5,3.5; V42 20.5,3.5; W1 -20.5,2.5; W2 -19.5,2.5; W3 -18.5,2.5; W4 -17.5,2.5; W5 -16.5,2.5; W6 -15.5,2.5; W7 -14.5,2.5; W8 -13.5,2.5; W9 -12.5,2.5; W10 -11.5,2.5; W11 -10.5,2.5; W12 -9.5,2.5; W13 -8.5,2.5; W14 -7.5,2.5; W15 -6.5,2.5; W16 -5.5,2.5; W17 -4.5,2.5; W18 -3.5,2.5; W19 -2.5,2.5; W20 -1.5,2.5; W21 -0.5,2.5; W22 0.5,2.5; W23 1.5,2.5; W24 2.5,2.5; W25 3.5,2.5; W26 4.5,2.5; W27 5.5,2.5; W28 6.5,2.5; W29 7.5,2.5; W30 8.5,2.5; W31 9.5,2.5; W32 10.5,2.5; W33 11.5,2.5; W34 12.5,2.5; W35 13.5,2.5; W36 14.5,2.5; W37 15.5,2.5; W38 16.5,2.5; W39 17.5,2.5; W40 18.5,2.5; W41 19.5,2.5; W42 20.5,2.5; Y1 -20.5,1.5; Y2 -19.5,1.5; Y3 -18.5,1.5; Y4 -17.5,1.5; Y5 -16.5,1.5; Y6 -15.5,1.5; Y7 -14.5,1.5; Y8 -13.5,1.5; Y9 -12.5,1.5; Y10 -11.5,1.5; Y11 -10.5,1.5; Y12 -9.5,1.5; Y13 -8.5,1.5; Y14 -7.5,1.5; Y15 -6.5,1.5; Y16 -5.5,1.5; Y17 -4.5,1.5; Y18 -3.5,1.5; Y19 -2.5,1.5; Y20 -1.5,1.5; Y21 -0.5,1.5; Y22 0.5,1.5; Y23 1.5,1.5; Y24 2.5,1.5; Y25 3.5,1.5; Y26 4.5,1.5; Y27 5.5,1.5; Y28 6.5,1.5; Y29 7.5,1.5; Y30 8.5,1.5; Y31 9.5,1.5; Y32 10.5,1.5; Y33 11.5,1.5; Y34 12.5,1.5; Y35 13.5,1.5; Y36 14.5,1.5; Y37 15.5,1.5; Y38 16.5,1.5; Y39 17.5,1.5; Y40 18.5,1.5; Y41 19.5,1.5; Y42 20.5,1.5